# Altium schematic symbol library CornellBajaLibrary.SchLib: 122 symbols (part 1 of 2)
Pins are listed as number, name and electrical type; pins without a type are passive.

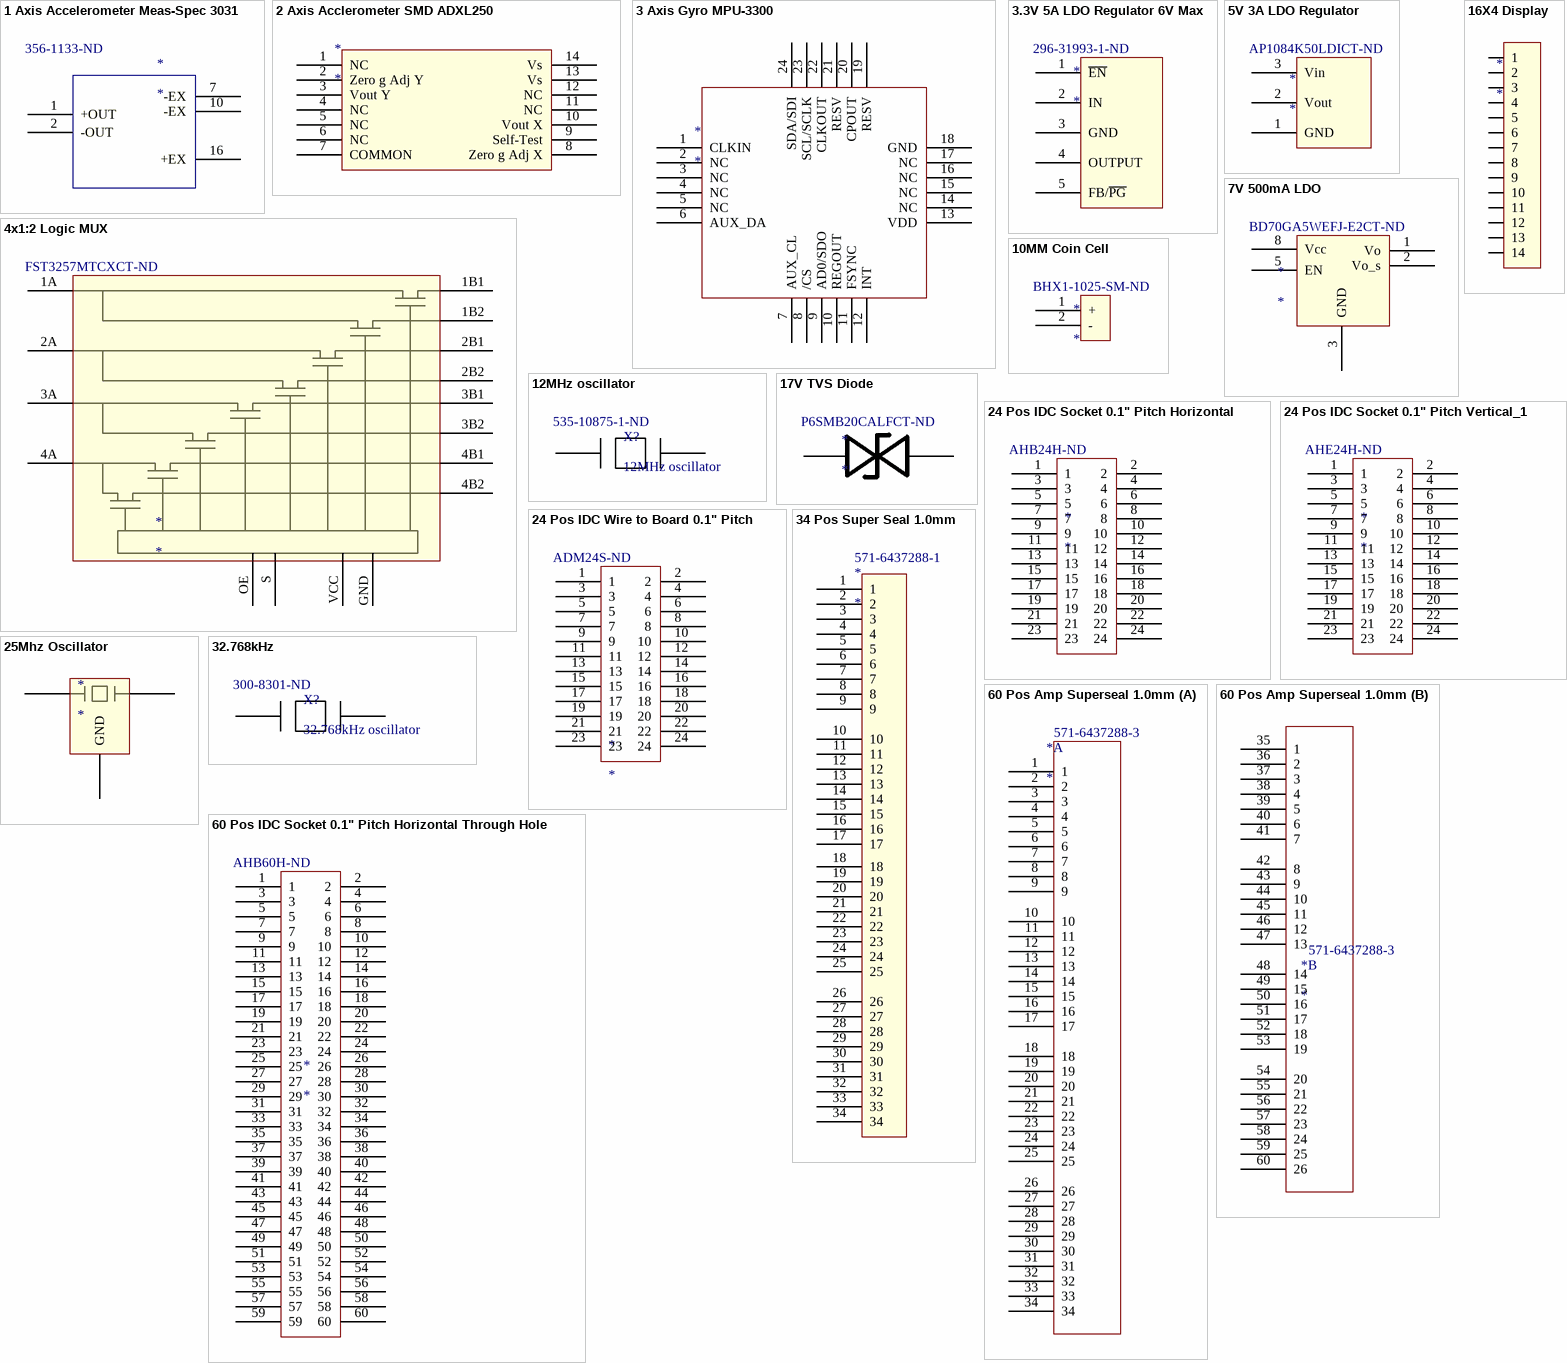
[diagram p0: symbols 1 Axis Accelerometer Meas-Spec 3031 to 60 Pos IDC Socket 0.1" Pitch Horizontal Through Hole]

## 1 Axis Accelerometer Meas-Spec 3031
designator *  Supplier Part Number 1: 356-1133-ND
Supplier 1: Digi-Key
footprint 1 Axis Accel 3031 (Meas-Spec 3031)
pins: 1 +OUT, 2 -OUT, 7 -EX, 10 -EX, 16 +EX

## 2 Axis Acclerometer SMD ADXL250
designator *
footprint ADXL250 (SOP, 14-Leads, Body 9.9x7.4mm (max), Pitch 1.27mm, IPC Medium Density)
pins: 1 NC, 2 Zero g Adj Y, 3 Vout Y, 4 NC, 5 NC, 6 NC, 7 COMMON, 8 Zero g Adj X, 9 Self-Test, 10 Vout X, 11 NC, 12 NC, 13 Vs, 14 Vs

## 3 Axis Gyro MPU-3300
designator *
footprint MPU-3300 (QFN, 24-Leads, Body 4.0x4.0mm (max), Pitch 0.50mm, IPC Medium Density)
pins: 1 CLKIN, 2 NC, 3 NC, 4 NC, 5 NC, 6 AUX_DA, 7 AUX_CL, 8 /CS, 9 AD0/SDO, 10 REGOUT, 11 FSYNC, 12 INT, 13 VDD, 14 NC, 15 NC, 16 NC, 17 NC, 18 GND, 19 RESV, 20 CPOUT, 21 RESV, 22 CLKOUT, 23 SCL/SCLK, 24 SDA/SDI

## 3.3V 5A LDO Regulator 6V Max
designator *  Supplier Part Number 1: 296-31993-1-ND
Supplier 1: Digi-Key; HelpURL: http://www.ti.com/lit/ds/symlink/tps75501.pdf
footprint 3.3V 5A LDO Reg 6V Max (TPS75533KTTT)
pins: 1 ~{EN}, 2 IN, 3 GND, 4 OUTPUT, 5 FB/~{PG}

## 4x1:2 Logic MUX
designator *  Supplier Part Number 1: FST3257MTCXCT-ND
Supplier 1: Digi-Key
footprint 4X 1:2 MUX (FST3257  QSOP); pin to pad 1A>4 1B1>2 1B2>3 2A>7 2B1>5 2B2>6 3A>9 3B1>11 3B2>10 4A>12 4B1>14 4B2>13 GND>8 OE>15 S>1 VCC>16
pins: 1A, 1B1, 1B2, 2A, 2B1, 2B2, 3A, 3B1, 3B2, 4A, 4B1, 4B2, GND, OE, S, VCC

## 5V 3A LDO Regulator
designator *  Supplier Part Number 1: AP1084K50LDICT-ND
Supplier 1: Digi-Key
footprint 5V 5A LDO Reg 12V Max (AP1084K50L-U)
pins: 1 GND, 2 Vout, 3 Vin

## 7V 500mA LDO
designator *  Supplier Part Number 1: BD70GA5WEFJ-E2CT-ND
Supplier 1: Digi-Key
footprint TSOP127P600X100_HS-8N (TSOP, 8-Leads, Body 5.2x4.0mm (max), Pitch 1.27mm, IPC Medium Density)
pins: 1 Vo, 2 Vo_s, 3 GND, 5 EN, 8 Vcc, 9 FIN

## 10MM Coin Cell
designator *  Supplier Part Number 1: BHX1-1025-SM-ND
Supplier 1: Digi-Key
footprint 10MM Coin Cell (BHX1-1025-SM)
pins: 1 +, 2 -

## 12MHz oscillator
designator X?  Supplier Part Number 1: 535-10875-1-ND
12MHz surface mount oscillator; Supplier 1: Digi-Key
footprint 12MHZ Oscillator (ABM2-12.000MHZ-D4Y-T)
pins: 1, 2

## 16X4 Display
designator *
pins: 1, 2, 3, 4, 5, 6, 7, 8, 9, 10, 11, 12, 13, 14

## 17V TVS Diode
designator *  Supplier Part Number 1: P6SMB20CALFCT-ND
Supplier 1: Digi-Key
footprint LittelFuse 17V TVS Diode (DO-214AA)
pins: 1 Anode, 2 Cathode

## 24 Pos IDC Socket 0.1" Pitch Horizontal
designator *  Supplier Part Number 1: AHB24H-ND
Supplier 1: Digi-Key
footprint 24 Pos IDC Horizontal 0.1" Pitch Socket
pins: 1, 2, 3, 4, 5, 6, 7, 8, 9, 10, 11, 12, 13, 14, 15, 16, 17, 18, 19, 20, 21, 22, 23, 24

## 24 Pos IDC Socket 0.1" Pitch Vertical_1
designator *  Supplier Part Number 1: AHE24H-ND
Supplier 1: Digi-Key
footprint 24 Pos IDC Vertical 0.1" Pitch Socket
pins: 1, 2, 3, 4, 5, 6, 7, 8, 9, 10, 11, 12, 13, 14, 15, 16, 17, 18, 19, 20, 21, 22, 23, 24

## 24 Pos IDC Wire to Board 0.1" Pitch
designator *  Supplier Part Number 1: ADM24S-ND
Supplier 1: Digi-Key
footprint 24 Pos IDC Vertical 0.1" Pitch Wire to Board
pins: 1, 2, 3, 4, 5, 6, 7, 8, 9, 10, 11, 12, 13, 14, 15, 16, 17, 18, 19, 20, 21, 22, 23, 24

## 25Mhz Oscillator
designator *
footprint 25Mhz Oscillator
pins: 1, 2 GND, 3 2, 4 GND

## 32.768kHz
designator X?, comment 32.768kHz oscillator  Supplier Part Number 1: 300-8301-ND
32.768kHz surface mount oscillator; Supplier 1: Digi-Key
footprint 32.768kHz Oscillator (CFS-206)
pins: 1, 2

## 34 Pos Super Seal 1.0mm
designator *  Supplier Part Number 1: 571-6437288-1
Supplier 1: Mouser
footprint 34 Pos Amp Superseal 1.0mm (6437288-1)
pins: 1, 2, 3, 4, 5, 6, 7, 8, 9, 10, 11, 12, 13, 14, 15, 16, 17, 18, 19, 20, 21, 22, 23, 24, 25, 26, 27, 28, 29, 30, 31, 32, 33, 34

## 60 Pos Amp Superseal 1.0mm
designator *  Supplier Part Number 1: 571-6437288-3
Supplier 1: Mouser
footprint 60 Pos Amp Superseal 1.mm (6437288-3)
part A pins: 1, 2, 3, 4, 5, 6, 7, 8, 9, 10, 11, 12, 13, 14, 15, 16, 17, 18, 19, 20, 21, 22, 23, 24, 25, 26, 27, 28, 29, 30, 31, 32, 33, 34
part B pins: 35 1, 36 2, 37 3, 38 4, 39 5, 40 6, 41 7, 42 8, 43 9, 44 10, 45 11, 46 12, 47 13, 48 14, 49 15, 50 16, 51 17, 52 18, 53 19, 54 20, 55 21, 56 22, 57 23, 58 24, 59 25, 60 26

## 60 Pos IDC Socket 0.1" Pitch Horizontal Through Hole
designator *  Supplier Part Number 1: AHB60H-ND
Supplier 1: Digi-Key
footprint 60 Pos IDC Horizontal 0.1" Pitch Socket Through Hole
pins: 1, 2, 3, 4, 5, 6, 7, 8, 9, 10, 11, 12, 13, 14, 15, 16, 17, 18, 19, 20, 21, 22, 23, 24, 25, 26, 27, 28, 29, 30, 31, 32, 33, 34, 35, 36, 37, 38, 39, 40, 41, 42, 43, 44, 45, 46, 47, 48, 49, 50, 51, 52, 53, 54, 55, 56, 57, 58, 59, 60

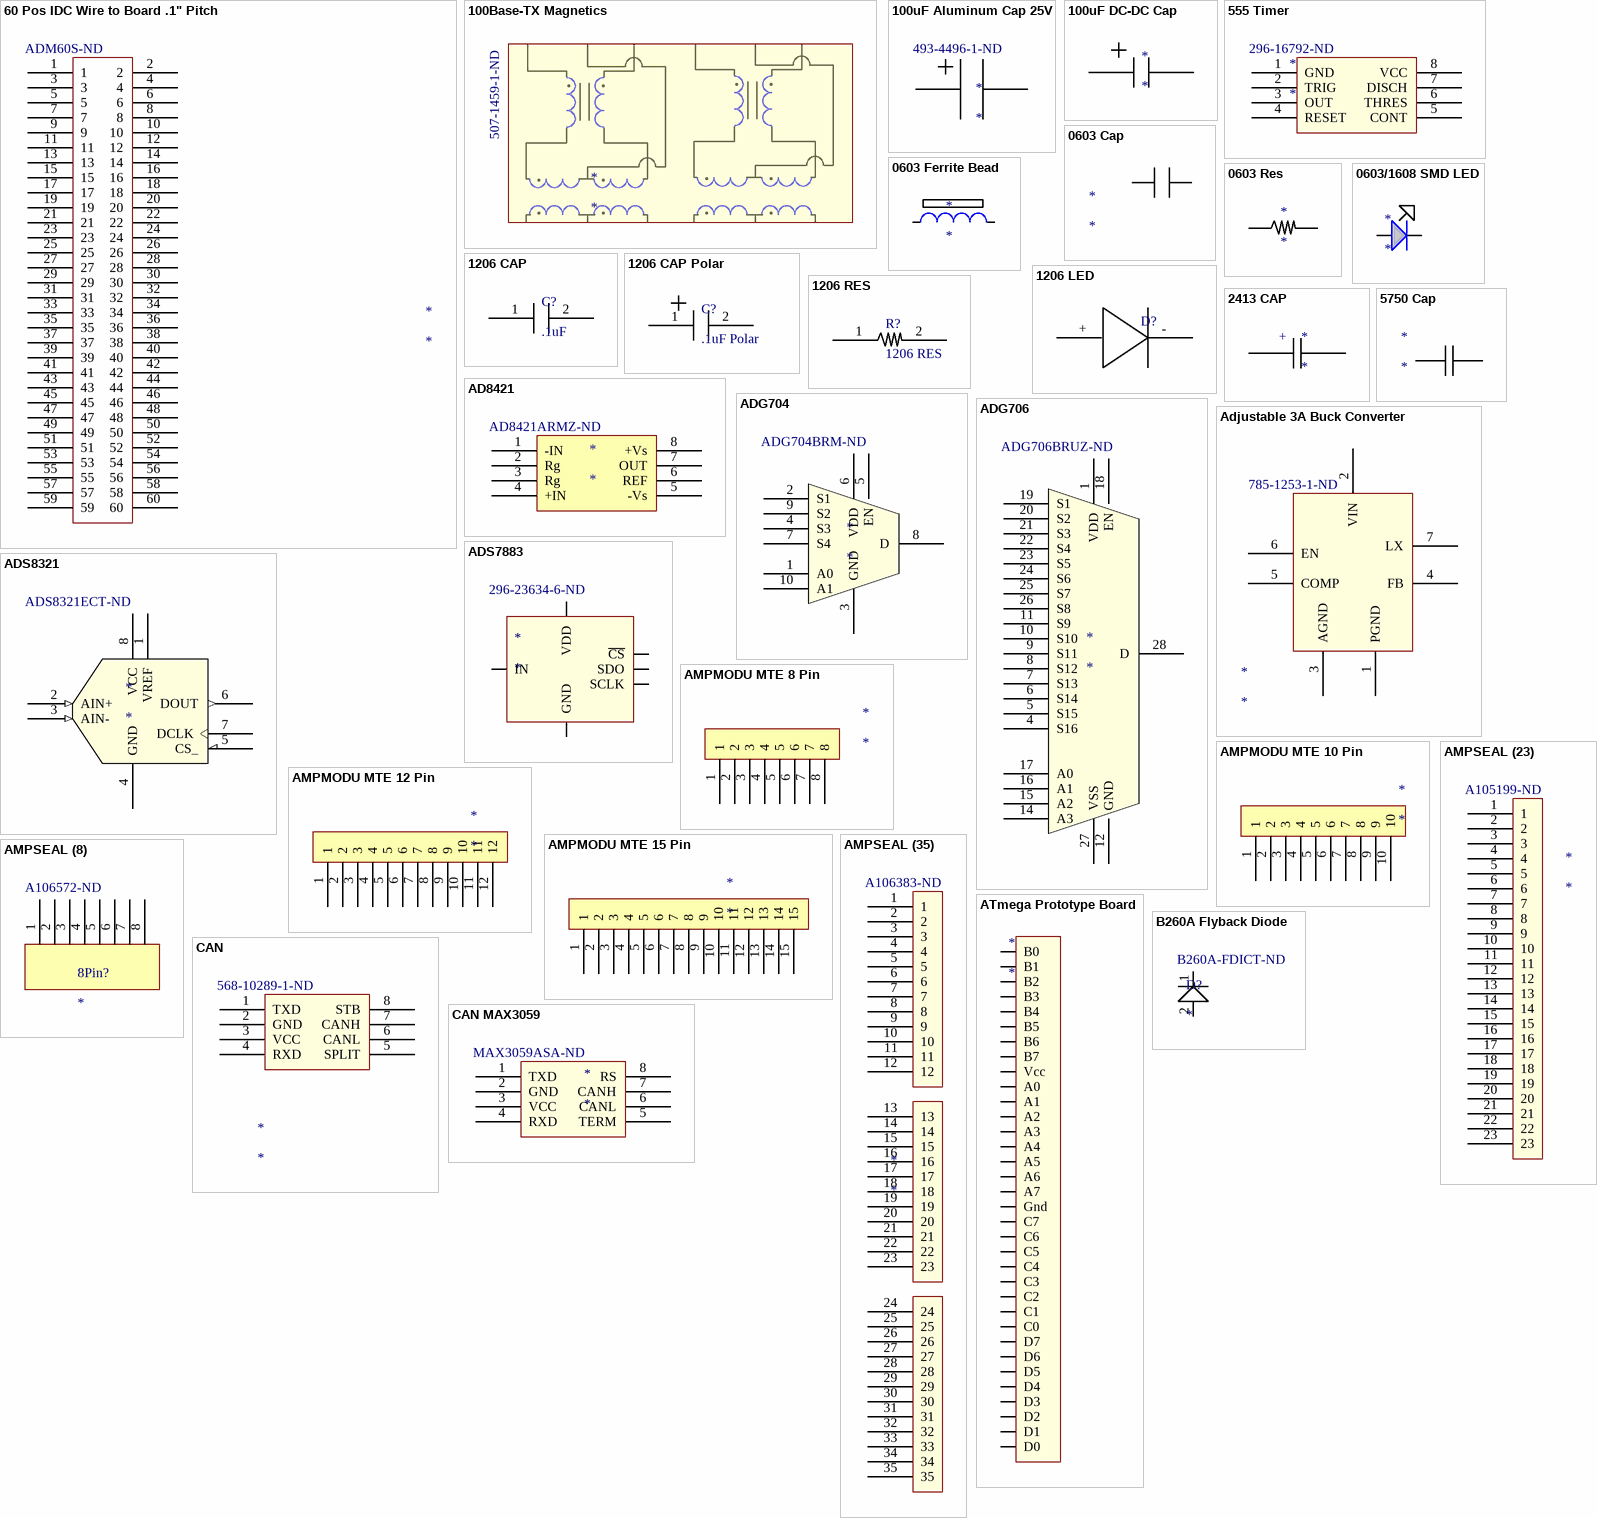
[diagram p1: symbols 60 Pos IDC Wire to Board .1" Pitch to CAN MAX3059]

## 60 Pos IDC Wire to Board .1" Pitch
designator *  Supplier Part Number 1: ADM60S-ND
Supplier 1: Digi-Key
footprint 60 Pos IDC Vertical 0.1" Pitch Wire to Board
pins: 1, 2, 3, 4, 5, 6, 7, 8, 9, 10, 11, 12, 13, 14, 15, 16, 17, 18, 19, 20, 21, 22, 23, 24, 25, 26, 27, 28, 29, 30, 31, 32, 33, 34, 35, 36, 37, 38, 39, 40, 41, 42, 43, 44, 45, 46, 47, 48, 49, 50, 51, 52, 53, 54, 55, 56, 57, 58, 59, 60

## 100Base-TX Magnetics
designator *  Supplier Part Number 1: 507-1459-1-ND
Supplier 1: Digi-Key
footprint SOP127P920X571-16N (SOP, 16-Leads, Body 12.32x7.24mm, Pitch 1.27mm, IPC Medium Density)
pins: 1, 2, 3, 6, 7, 8, 9, 10, 11, 14, 15, 16

## 100uF Aluminum Cap 25V
designator *  Supplier Part Number 1: 493-4496-1-ND
Supplier 1: Digi-Key
footprint 100uF 25V Electrolytic Cap (UBT1E101MPD1TD)
pins: 1 +, 2 -

## 100uF DC-DC Cap
designator *
Supplier 1: Digi-Key; ComponentLink1URL: http://www.nichicon.co.jp/english/products/pdf/2013fpcap_catalog_r7.pdf; ComponentLink1Description: http://www.nichicon.co.jp/english/products/pdf/2013fpcap_catalog_r7.pdf; Supplier Part Number 1: 493-3716-ND
footprint 100uF DC-DC Cap
pins: 1 +, 2 -

## 555 Timer
designator *  Supplier Part Number 1: 296-16792-ND
NE555; Supplier 1: Digi-Key
footprint 555 Timer (NE555)
pins: 1 GND, 2 TRIG, 3 OUT, 4 RESET, 5 CONT, 6 THRES, 7 DISCH, 8 VCC

## 0603 Cap
designator *
footprint 0603/1608 SMD Resistor
pins: 1, 2

## 0603 Ferrite Bead
designator *
footprint 0603/1608 SMD Resistor
pins: 1, 2

## 0603 Res
designator *
footprint 0603/1608 SMD Resistor
pins: 1, 2

## 0603/1608 SMD LED
designator *
footprint 0603/1608 SMD LED
pins: 1, 2

## 1206 CAP
designator C?, comment .1uF
.1 uF decoupling caps.  you probably want this for your project; ComponentLink1Description: Datasheet for .1 uF Capacitor; ComponentLink1URL: http://www.kemet.com/kemet/web/homepage/kechome.nsf/vapubfiles/F3102_X7R.pdf/$file/F3102_X7R.pdf; Supplier 1: Digi-Key; Supplier Part Number 1: 311-1161-1-ND
footprint 1206
pins: 1, 2

## 1206 CAP Polar
designator C?, comment .1uF Polar
.1 uF decoupling caps.  you probably want this for your project; ComponentLink1Description: Datasheet for .1 uF Capacitor; ComponentLink1URL: http://www.kemet.com/kemet/web/homepage/kechome.nsf/vapubfiles/F3102_X7R.pdf/$file/F3102_X7R.pdf
footprint 1206 (POLAR)
pins: 1, 2

## 1206 LED
designator D?
Green surface mount LED
footprint Cathode Mark 1206 led footprint (OSRAM semiconductor)
pins: +, -

## 1206 RES
designator R?
0 ohm surface mount resistor.; ComponentLink1URL: http://industrial.panasonic.com/www-cgi/jvcr13pz.cgi?E+PZ+3+AOA0001+ERJ8GEYJ103V+7+WW; ComponentLink1Description: Datasheet for 10k Resistor
footprint 1206
pins: 1, 2

## 2413 CAP
designator *
footprint 2512 CAP
pins: + 1, - 2

## 5750 Cap
designator *
Supplier 1: Digi-Key; Supplier Part Number 1: 445-1655-1-ND
footprint 5750 SMD Cap
pins: 1, 2

## AD8421
designator *  Supplier Part Number 1: AD8421ARMZ-ND
Inamp with 10000 gain; ComponentLink1URL: http://www.analog.com/static/imported-files/data_sheets/AD8223.pdf; ComponentLink1Description: http://www.analog.com/static/imported-files/data_sheets/AD8223.pdf; Supplier 1: Digi-Key; ComponentLink2URL: http://www.analog.com/static/imported-files/data_sheets/AD8421.pdf; ComponentLink2Description: http://www.analog.com/static/imported-files/data_sheets/AD8421.pdf
footprint SOIC127P600X175-8N (SOIC, 8-Leads, Body 5.0x4.0mm (max), Pitch 1.27mm, IPC Medium Density)
pins: 1 -IN, 2 Rg, 3 Rg, 4 +IN, 5 -Vs, 6 REF, 7 OUT, 8 +Vs

## ADG704
designator *  Supplier Part Number 1: ADG704BRM-ND
Analog 1:4 MUX; Supplier 1: Digi-Key; ComponentLink1URL: http://www.analog.com/static/imported-files/data_sheets/ADG704.pdf; ComponentLink1Description: http://www.analog.com/static/imported-files/data_sheets/ADG704.pdf
footprint TSSOP50P490X110-10N (TSSOP, 10-Leads, Body 3.0x3.0mm (max), Pitch 0.50mm, IPC Medium Density)
pins: 1 A0, 2 S1, 3 GND, 4 S3, 5 EN, 6 VDD, 7 S4, 8 D, 9 S2, 10 A1

## ADG706
designator *  Supplier Part Number 1: ADG706BRUZ-ND
Analog 1:16 MUX; Supplier 1: Digi-Key; ComponentLink1URL: http://www.analog.com/static/imported-files/data_sheets/AD8223.pdf; ComponentLink1Description: http://www.analog.com/static/imported-files/data_sheets/AD8223.pdf
footprint TSOP65P640X110-28N (TSOP, 28-Leads, Body 9.8x4.5mm (max), Pitch 0.65mm, IPC Medium Density)
pins: 1 VDD, 4 S16, 5 S15, 6 S14, 7 S13, 8 S12, 9 S11, 10 S10, 11 S9, 12 GND, 14 A3, 15 A2, 16 A1, 17 A0, 18 EN, 19 S1, 20 S2, 21 S3, 22 S4, 23 S5, 24 S6, 25 S7, 26 S8, 27 VSS, 28 D

## Adjustable 3A Buck Converter
designator *  Supplier Part Number 1: 785-1253-1-ND
Supplier 1: Digi-Key
footprint 3A Buck Converter (SOIC, 8-Leads, Body 5.0x4.0mm (max), Pitch 1.27mm, IPC Medium Density AOZ1031AI)
pins: 1 PGND, 2 VIN, 3 AGND, 4 FB, 5 COMP, 6 EN, 7 LX, 8 LX

## ADS7883
designator *  Supplier Part Number 1: 296-23634-6-ND
Supplier 1: Digi-Key
footprint TSOP95P280X145-6N (TSOP, 6-Leads, Body 2.90x1.60mm, Pitch 0.95mm, IPC Medium Density)
pins: 1 VDD, 2 GND, 3 IN, 4 SCLK, 5 SDO, 6 ~{CS}

## ADS8321
designator *  Supplier Part Number 1: ADS8321ECT-ND
100ksps 16-bit Differential ADC; Supplier 1: Digi-Key; ComponentLink1URL: http://www.ti.com/lit/ds/symlink/ads8321.pdf; ComponentLink1Description: http://www.ti.com/lit/ds/symlink/ads8321.pdf
footprint TSOP65P490X110-8N (TSOP, 8-Leads, Body 3.1x3.1mm (max), Pitch 0.65mm, IPC Medium Density)
pins: 1 VREF (power), 2 AIN+ (in), 3 AIN- (in), 4 GND, 5 CS_, 6 DOUT (out), 7 DCLK, 8 VCC (power)

## AMPMODU MTE 8 Pin
designator *
footprint AMPMODU 8 Pin
pins: 1, 2, 3, 4, 5, 6, 7, 8

## AMPMODU MTE 10 Pin
designator *
footprint AMPMODU 10 Pin
pins: 1, 2, 3, 4, 5, 6, 7, 8, 9, 10

## AMPMODU MTE 12 Pin
designator *
footprint AMPMODU 12 Pin
pins: 1, 2, 3, 4, 5, 6, 7, 8, 9, 10, 11, 12

## AMPMODU MTE 15 Pin
designator *
footprint AMPMODU 15 Pin
pins: 1, 2, 3, 4, 5, 6, 7, 8, 9, 10, 11, 12, 13, 14, 15

## AMPSEAL (8)
designator 8Pin?  Supplier Part Number 1: A106572-ND
AMPSEAL 8 Position Vertical; Product Number: 1-776276-1; Supplier 1: Digi-Key
footprint AMPSEAL (8)
pins: 1, 2, 3, 4, 5, 6, 7, 8

## AMPSEAL (23)
designator *  Supplier Part Number 1: A105199-ND
Supplier 1: Digi-Key
footprint AMPSEAL (23)
pins: 1, 2, 3, 4, 5, 6, 7, 8, 9, 10, 11, 12, 13, 14, 15, 16, 17, 18, 19, 20, 21, 22, 23

## AMPSEAL (35)
designator *  Supplier Part Number 1: A106383-ND
Supplier 1: Digi-Key
footprint Ampseal (35)
pins: 1, 2, 3, 4, 5, 6, 7, 8, 9, 10, 11, 12, 13, 14, 15, 16, 17, 18, 19, 20, 21, 22, 23, 24, 25, 26, 27, 28, 29, 30, 31, 32, 33, 34, 35

## ATmega Prototype Board
designator *
pins: 1 B0, 2 B1, 3 B2, 4 B3, 5 B4, 6 B5, 7 B6, 8 B7, 9 Vcc, 10 A0, 11 A1, 12 A2, 13 A3, 14 A4, 15 A5, 16 A6, 17 A7, 18 Gnd, 19 C7, 21 C0, 22 C1, 23 C2, 24 C3, 25 C4, 26 C5, 27 C6, 28 D0, 29 D1, 30 D2, 31 D3, 32 D4, 33 D5, 34 D6, 35 D7

## B260A Flyback Diode
designator D?  Supplier Part Number 1: B260A-FDICT-ND
Supplier 1: Digi-Key
footprint DO-214AC
pins: 1, 2

## CAN
designator *  Supplier Part Number 1: 568-10289-1-ND
Supplier 1: Digi-Key
footprint TJA1040 (SOIC, 8-Leads, Body 5.0x4.0mm (max), Pitch 1.27mm, IPC Medium Density)
pins: 1 TXD, 2 GND, 3 VCC, 4 RXD, 5 SPLIT, 6 CANL, 7 CANH, 8 STB

## CAN MAX3059
designator *  Supplier Part Number 1: MAX3059ASA-ND
Supplier 1: Digi-Key
footprint TJA1040 (SOIC, 8-Leads, Body 5.0x4.0mm (max), Pitch 1.27mm, IPC Medium Density)
pins: 1 TXD, 2 GND, 3 VCC, 4 RXD, 5 TERM, 6 CANL, 7 CANH, 8 RS

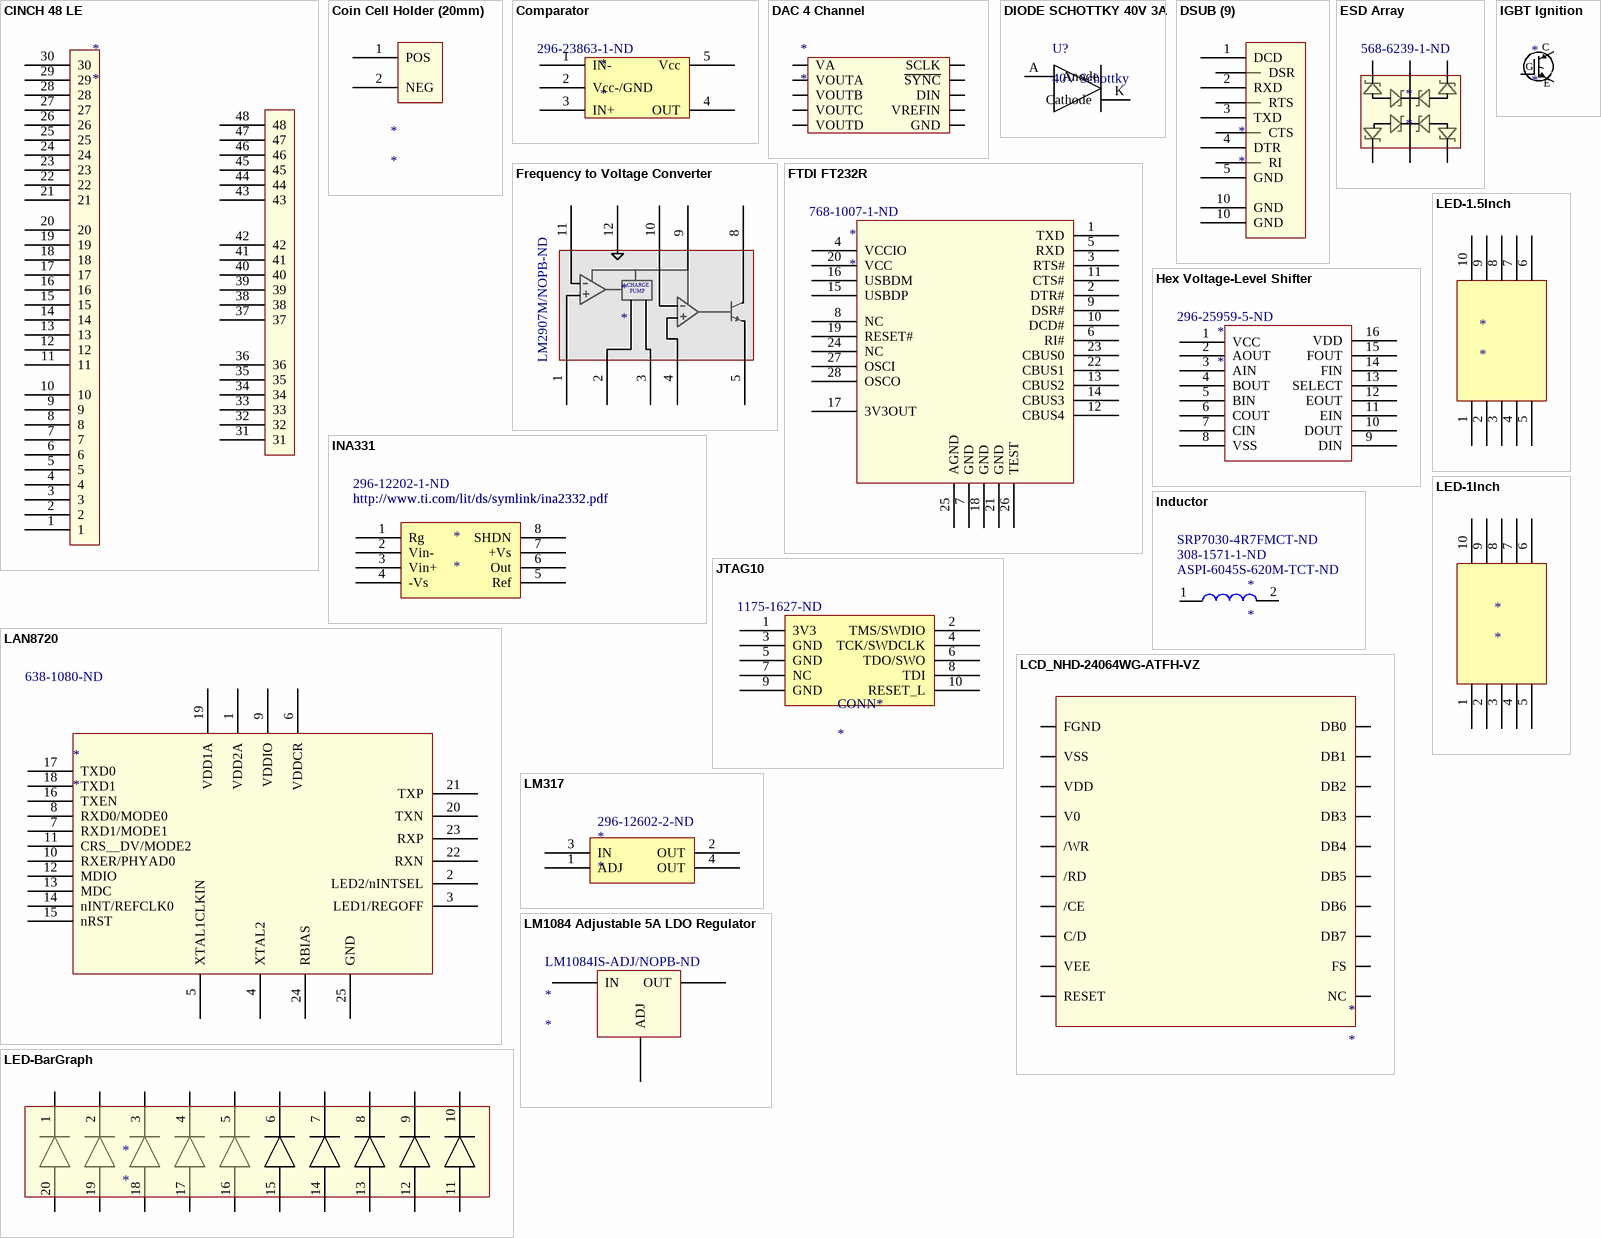
[diagram p2: symbols CINCH 48 LE to LM1084 Adjustable 5A LDO Regulator]

## CINCH 48 LE
designator *
footprint Cinch (48) LE
pins: 1, 2, 3, 4, 5, 6, 7, 8, 9, 10, 11, 12, 13, 14, 15, 16, 17, 18, 19, 20, 21, 22, 23, 24, 25, 26, 27, 28, 29, 30, 31, 32, 33, 34, 35, 36, 37, 38, 39, 40, 41, 42, 43, 44, 45, 46, 47, 48

## Coin Cell Holder (20mm)
designator *
footprint Coin Cell Holder 2032
pins: 1 POS, 2 NEG

## Comparator
designator *  Supplier Part Number 1: 296-23863-1-ND
Supplier 1: Digi-Key
footprint Comparator (TL331KDBVR)
pins: 1 IN-, 2 Vcc-/GND, 3 IN+, 4 OUT, 5 Vcc

## DAC 4 Channel
designator *
footprint TSSOP50P490X110-10N (TSSOP, 10-Leads, Body 3.0x3.0mm (max), Pitch 0.50mm, IPC Medium Density)
pins: 1 VA, 2 VOUTA, 3 VOUTB, 4 VOUTC, 5 VOUTD, 6 GND, 7 VREFIN, 8 DIN, 9 ~{SYNC}, 10 SCLK

## DIODE SCHOTTKY 40V 3A
designator U?, comment 40V Schottky
DIODE SCHOTTKY 40V 3A SMA; ComponentLink1Description: Diode Datasheet; ComponentLink1URL: http://www.diodes.com/datasheets/ds30240.pdf
footprint DIODE SCHOTTKY 40V 3A SMA
pins: A Anode, K Cathode

## DSUB (9)
designator *
footprint 9 Pin D Sub
pins: 1 DCD, 2 RXD, 3 TXD, 4 DTR, 5 GND, 6 DSR, 7 RTS, 8 CTS, 9 RI, 10 GND, 10 GND

## ESD Array
designator *  Supplier Part Number 1: 568-6239-1-ND
BZA408B,115; Supplier 1: Digi-Key
footprint ESD_Array_BZA408B (SOT23, 6-Leads, Body 3.1x3.0mm (max), Pitch 0.95mm, IPC Medium Density)
pins: 1, 2, 3, 4, 5, 6

## Frequency to Voltage Converter
designator *  Supplier Part Number 1: LM2907M/NOPB-ND
Supplier 1: Digi-Key
footprint SOP127P600X175-14N (SOP, 14-Leads, Body 8.8x4.0mm (max), Pitch 1.27mm, IPC Medium Density)
pins: 1 fin, 2 fin, 3 fin, 4 fin, 5 fin, 8 fin, 9 fin, 10 fin, 11 fin, 12 fin
text: CHARGE; PUMP

## FTDI FT232R
designator *  Supplier Part Number 1: 768-1007-1-ND
Supplier 1: Digi-Key
footprint FTDI FT232R (SOP, 28-Leads, Body 10.5x5.6mm (max), Pitch 0.65mm, IPC Medium Density)
pins: 1 TXD, 2 DTR#, 3 RTS#, 4 VCCIO, 5 RXD, 6 RI#, 7 GND, 8 NC, 9 DSR#, 10 DCD#, 11 CTS#, 12 CBUS4, 13 CBUS2, 14 CBUS3, 15 USBDP, 16 USBDM, 17 3V3OUT, 18 GND, 19 RESET#, 20 VCC, 21 GND, 22 CBUS1, 23 CBUS0, 24 NC, 25 AGND, 26 TEST, 27 OSCI, 28 OSCO

## Hex Voltage-Level Shifter
designator *  Supplier Part Number 1: 296-25959-5-ND
Supplier 1: Digi-Key
footprint Hex Voltage-Level Shifter (CD4504B)
pins: 1 VCC, 2 AOUT, 3 AIN, 4 BOUT, 5 BIN, 6 COUT, 7 CIN, 8 VSS, 9 DIN, 10 DOUT, 11 EIN, 12 EOUT, 13 SELECT, 14 FIN, 15 FOUT, 16 VDD

## IGBT Ignition
designator *
Supplier 1: Mouser; Supplier Part Number 1: 512-ISL9V5036P3-F085
footprint TO-220AB
pins: 1 G, 2 G, 3 G
text: C; E

## INA331
designator *  Supplier Part Number 1: 296-12202-1-ND
Inamp Rail Output 2MHz; Supplier 1: Digi-Key; ComponentLink1URL: http://www.ti.com/lit/ds/symlink/ina2332.pdf; ComponentLink1Description: http://www.ti.com/lit/ds/symlink/ina2332.pdf
footprint TSOP65P490X110-8N (TSOP, 8-Leads, Body 3.1x3.1mm (max), Pitch 0.65mm, IPC Medium Density)
pins: 1 Rg, 2 Vin-, 3 Vin+, 4 -Vs, 5 Ref, 6 Out, 7 +Vs, 8 SHDN

## Inductor
designator *  Supplier Part Number 1: ASPI-6045S-620M-TCT-ND  Supplier Part Number 2: 308-1571-1-ND  Supplier Part Number 3: SRP7030-4R7FMCT-ND
Inductor; Supplier 1: Digi-Key; Supplier 2: Digi-Key; Supplier 3: Digi-Key
footprint ASPI-6045
footprint 4.7uH Inductor Wirewound 5A (SRP7030-4R7FM)
footprint 4.7uH 1MHz Inductor (CDMC6D28NP-4R7MC)
pins: 1, 2

## JTAG10
designator CONN*  Supplier Part Number 1: 1175-1627-ND
3220-10-0100-00; Supplier 1: Digi-Key
footprint JTAG10 Polarity (3220-10-0100-00)
pins: 1 3V3, 2 TMS/SWDIO, 3 GND, 4 TCK/SWDCLK, 5 GND, 6 TDO/SWO, 7 NC, 8 TDI, 9 GND, 10 RESET_L

## LAN8720
designator *  Supplier Part Number 1: 638-1080-ND
Supplier 1: Digi-Key
footprint QFN50P400X400X100_HS-25N (QFN, 24-Leads, Body 4.00x4.00mm, Pitch 0.50mm, Thermal Pad 2.50x2.50mm, IPC Medium Density)
pins: 1 VDD2A, 2 LED2/nINTSEL, 3 LED1/REGOFF, 4 XTAL2, 5 XTAL1CLKIN, 6 VDDCR, 7 RXD1/MODE1, 8 RXD0/MODE0, 9 VDDIO, 10 RXER/PHYAD0, 11 CRS__DV/MODE2, 12 MDIO, 13 MDC, 14 nINT/REFCLK0, 15 nRST, 16 TXEN, 17 TXD0, 18 TXD1, 19 VDD1A, 20 TXN, 21 TXP, 22 RXN, 23 RXP, 24 RBIAS, 25 GND

## LCD_NHD-24064WG-ATFH-VZ
designator *
pins: 1 FGND, 2 VSS, 3 VDD, 4 V0, 5 /WR, 6 /RD, 7 /CE, 8 C/D, 9 VEE, 10 RESET, 11 DB1, 11 DB0, 12 DB3, 12 DB2, 13 DB4, 14 DB5, 15 DB6, 16 DB7, 19 FS, 20 NC

## LED-1.5Inch
designator *
footprint LED 1.5 Inch 7 Segment
pins: 1, 2, 3, 4, 5, 6, 7, 8, 9, 10

## LED-1Inch
designator *
footprint LED 1 Inch 7 Segment
pins: 1, 2, 3, 4, 5, 6, 7, 8, 9, 10

## LED-BarGraph
designator *
footprint LED Bargraph
pins: 1 Cathode, 2 Cathode, 3 Cathode, 4 Cathode, 5 Cathode, 6 Cathode, 7 Cathode, 8 Cathode, 9 Cathode, 10 Cathode, 11 Anode, 12 Anode, 13 Anode, 14 Anode, 15 Anode, 16 Anode, 17 Anode, 18 Anode, 19 Anode, 20 Anode

## LM317
designator *  Supplier Part Number 1: 296-12602-2-ND
40V Input Adjustable LDO; Supplier 1: Digi-Key; ComponentLink1URL: http://www.ti.com/lit/ds/symlink/lm317.pdf; ComponentLink1Description: http://www.ti.com/lit/ds/symlink/lm317.pdf
footprint SOT230P700X180-4N (SOT223, 4-Leads, Body 6.7x7.3mm (max), Pitch 2.30mm, IPC Medium Density)
pins: 1 ADJ, 2 OUT, 3 IN, 4 OUT

## LM1084 Adjustable 5A LDO Regulator
designator *  Supplier Part Number 1: LM1084IS-ADJ/NOPB-ND
Supplier 1: Digi-Key
footprint LM1084 5A (D2-PAK, 4-Pads, Body 8.6x10.3mm (max), IPC Medium Density)
pins: 1 ADJ, 2 OUT, 3 IN

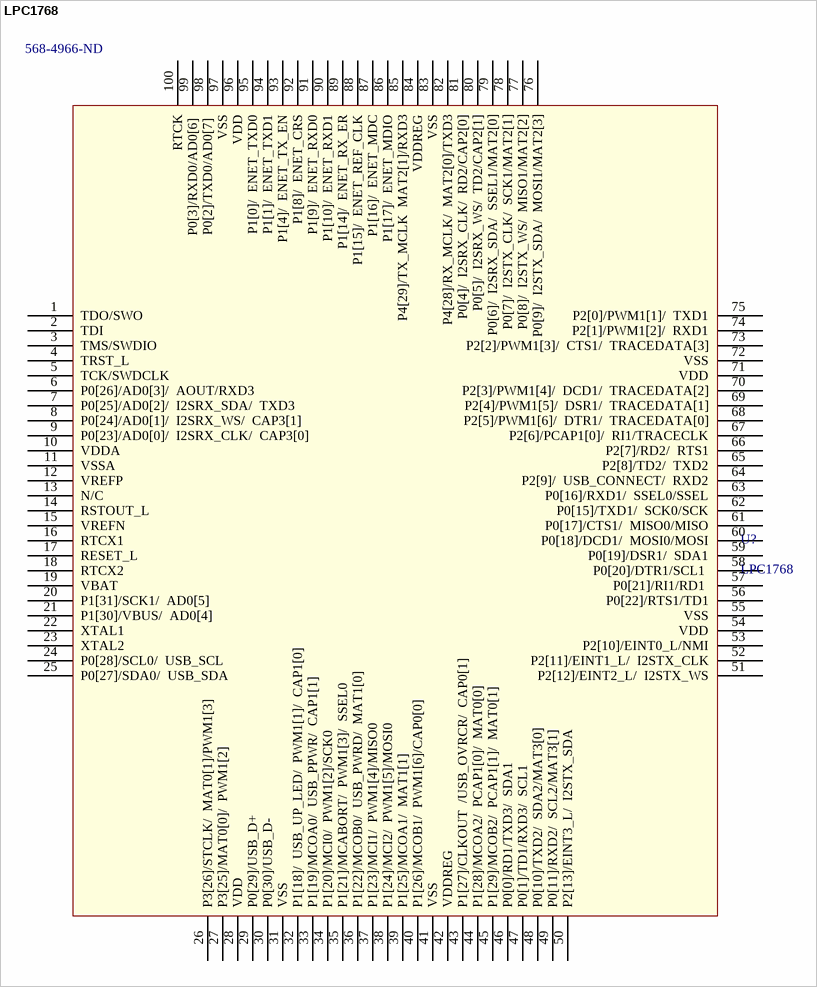
[diagram p3: symbol LPC1768]

## LPC1768
designator U?  Supplier Part Number 1: 568-4966-ND
100 pin ARM microcontroller; Supplier 1: Digi-Key
footprint LPC1768 (TSQFP, 100-Leads, Body 16.3x16.3mm (max), Pitch 0.50mm, IPC Medium Density)
pins: 1 TDO/SWO , 2 TDI, 3 TMS/SWDIO, 4 TRST_L, 5 TCK/SWDCLK, 6 P0[26]/AD0[3]/  AOUT/RXD3, 7 P0[25]/AD0[2]/  I2SRX_SDA/  TXD3, 8 P0[24]/AD0[1]/  I2SRX_WS/  CAP3[1], 9 P0[23]/AD0[0]/  I2SRX_CLK/  CAP3[0], 10 VDDA, 11 VSSA, 12 VREFP, 13 N/C, 14 RSTOUT_L, 15 VREFN, 16 RTCX1, 17 RESET_L, 18 RTCX2, 19 VBAT, 20 P1[31]/SCK1/  AD0[5], 21 P1[30]/VBUS/  AD0[4], 22 XTAL1, 23 XTAL2, 24 P0[28]/SCL0/  USB_SCL, 25 P0[27]/SDA0/  USB_SDA, 26 P3[26]/STCLK/  MAT0[1]/PWM1[3], 27 P3[25]/MAT0[0]/  PWM1[2], 28 VDD, 29 P0[29]/USB_D+ , 30 P0[30]/USB_D-, 31 VSS, 32 P1[18]/  USB_UP_LED/  PWM1[1]/  CAP1[0], 33 P1[19]/MCOA0/  USB_PPWR/  CAP1[1], 34 P1[20]/MCI0/  PWM1[2]/SCK0, 35 P1[21]/MCABORT/  PWM1[3]/  SSEL0, 36 P1[22]/MCOB0/  USB_PWRD/  MAT1[0], 37 P1[23]/MCI1/  PWM1[4]/MISO0, 38 P1[24]/MCI2/  PWM1[5]/MOSI0, 39 P1[25]/MCOA1/  MAT1[1], 40 P1[26]/MCOB1/  PWM1[6]/CAP0[0], 41 VSS, 42 VDDREG, 43 P1[27]/CLKOUT  /USB_OVRCR/  CAP0[1], 44 P1[28]/MCOA2/  PCAP1[0]/  MAT0[0], 45 P1[29]/MCOB2/  PCAP1[1]/  MAT0[1], 46 P0[0]/RD1/TXD3/  SDA1, 47 P0[1]/TD1/RXD3/  SCL1, 48 P0[10]/TXD2/  SDA2/MAT3[0], 49 P0[11]/RXD2/  SCL2/MAT3[1], 50 P2[13]/EINT3_L/  I2STX_SDA, 51 P2[12]/EINT2_L/  I2STX_WS, 52 P2[11]/EINT1_L/  I2STX_CLK, 53 P2[10]/EINT0_L/NMI, 54 VDD, 55 VSS, 56 P0[22]/RTS1/TD1, 57 P0[21]/RI1/RD1 , 58 P0[20]/DTR1/SCL1 , 59 P0[19]/DSR1/  SDA1, 60 P0[18]/DCD1/  MOSI0/MOSI, 61 P0[17]/CTS1/  MISO0/MISO, 62 P0[15]/TXD1/  SCK0/SCK, 63 P0[16]/RXD1/  SSEL0/SSEL, 64 P2[9]/  USB_CONNECT/  RXD2, 65 P2[8]/TD2/  TXD2, 66 P2[7]/RD2/  RTS1, 67 P2[6]/PCAP1[0]/  RI1/TRACECLK, 68 P2[5]/PWM1[6]/  DTR1/  TRACEDATA[0], 69 P2[4]/PWM1[5]/  DSR1/  TRACEDATA[1], 70 P2[3]/PWM1[4]/  DCD1/  TRACEDATA[2], 71 VDD, 72 VSS, 73 P2[2]/PWM1[3]/  CTS1/  TRACEDATA[3], 74 P2[1]/PWM1[2]/  RXD1, 75 P2[0]/PWM1[1]/  TXD1, 76 P0[9]/  I2STX_SDA/  MOSI1/MAT2[3], 77 P0[8]/  I2STX_WS/  MISO1/MAT2[2], 78 P0[7]/  I2STX_CLK/  SCK1/MAT2[1], 79 P0[6]/  I2SRX_SDA/  SSEL1/MAT2[0], 80 P0[5]/  I2SRX_WS/  TD2/CAP2[1], 81 P0[4]/  I2SRX_CLK/  RD2/CAP2[0], 82 P4[28]/RX_MCLK/  MAT2[0]/TXD3, 83 VSS, 84 VDDREG, 85 P4[29]/TX_MCLK  MAT2[1]/RXD3, 86 P1[17]/  ENET_MDIO, 87 P1[16]/  ENET_MDC, 88 P1[15]/  ENET_REF_CLK, 89 P1[14]/  ENET_RX_ER, 90 P1[10]/  ENET_RXD1, 91 P1[9]/  ENET_RXD0, 92 P1[8]/  ENET_CRS, 93 P1[4]/  ENET_TX_EN, 94 P1[1]/  ENET_TXD1, 95 P1[0]/  ENET_TXD0, 96 VDD, 97 VSS, 98 P0[2]/TXD0/AD0[7] , 99 P0[3]/RXD0/AD0[6] , 100 RTCK

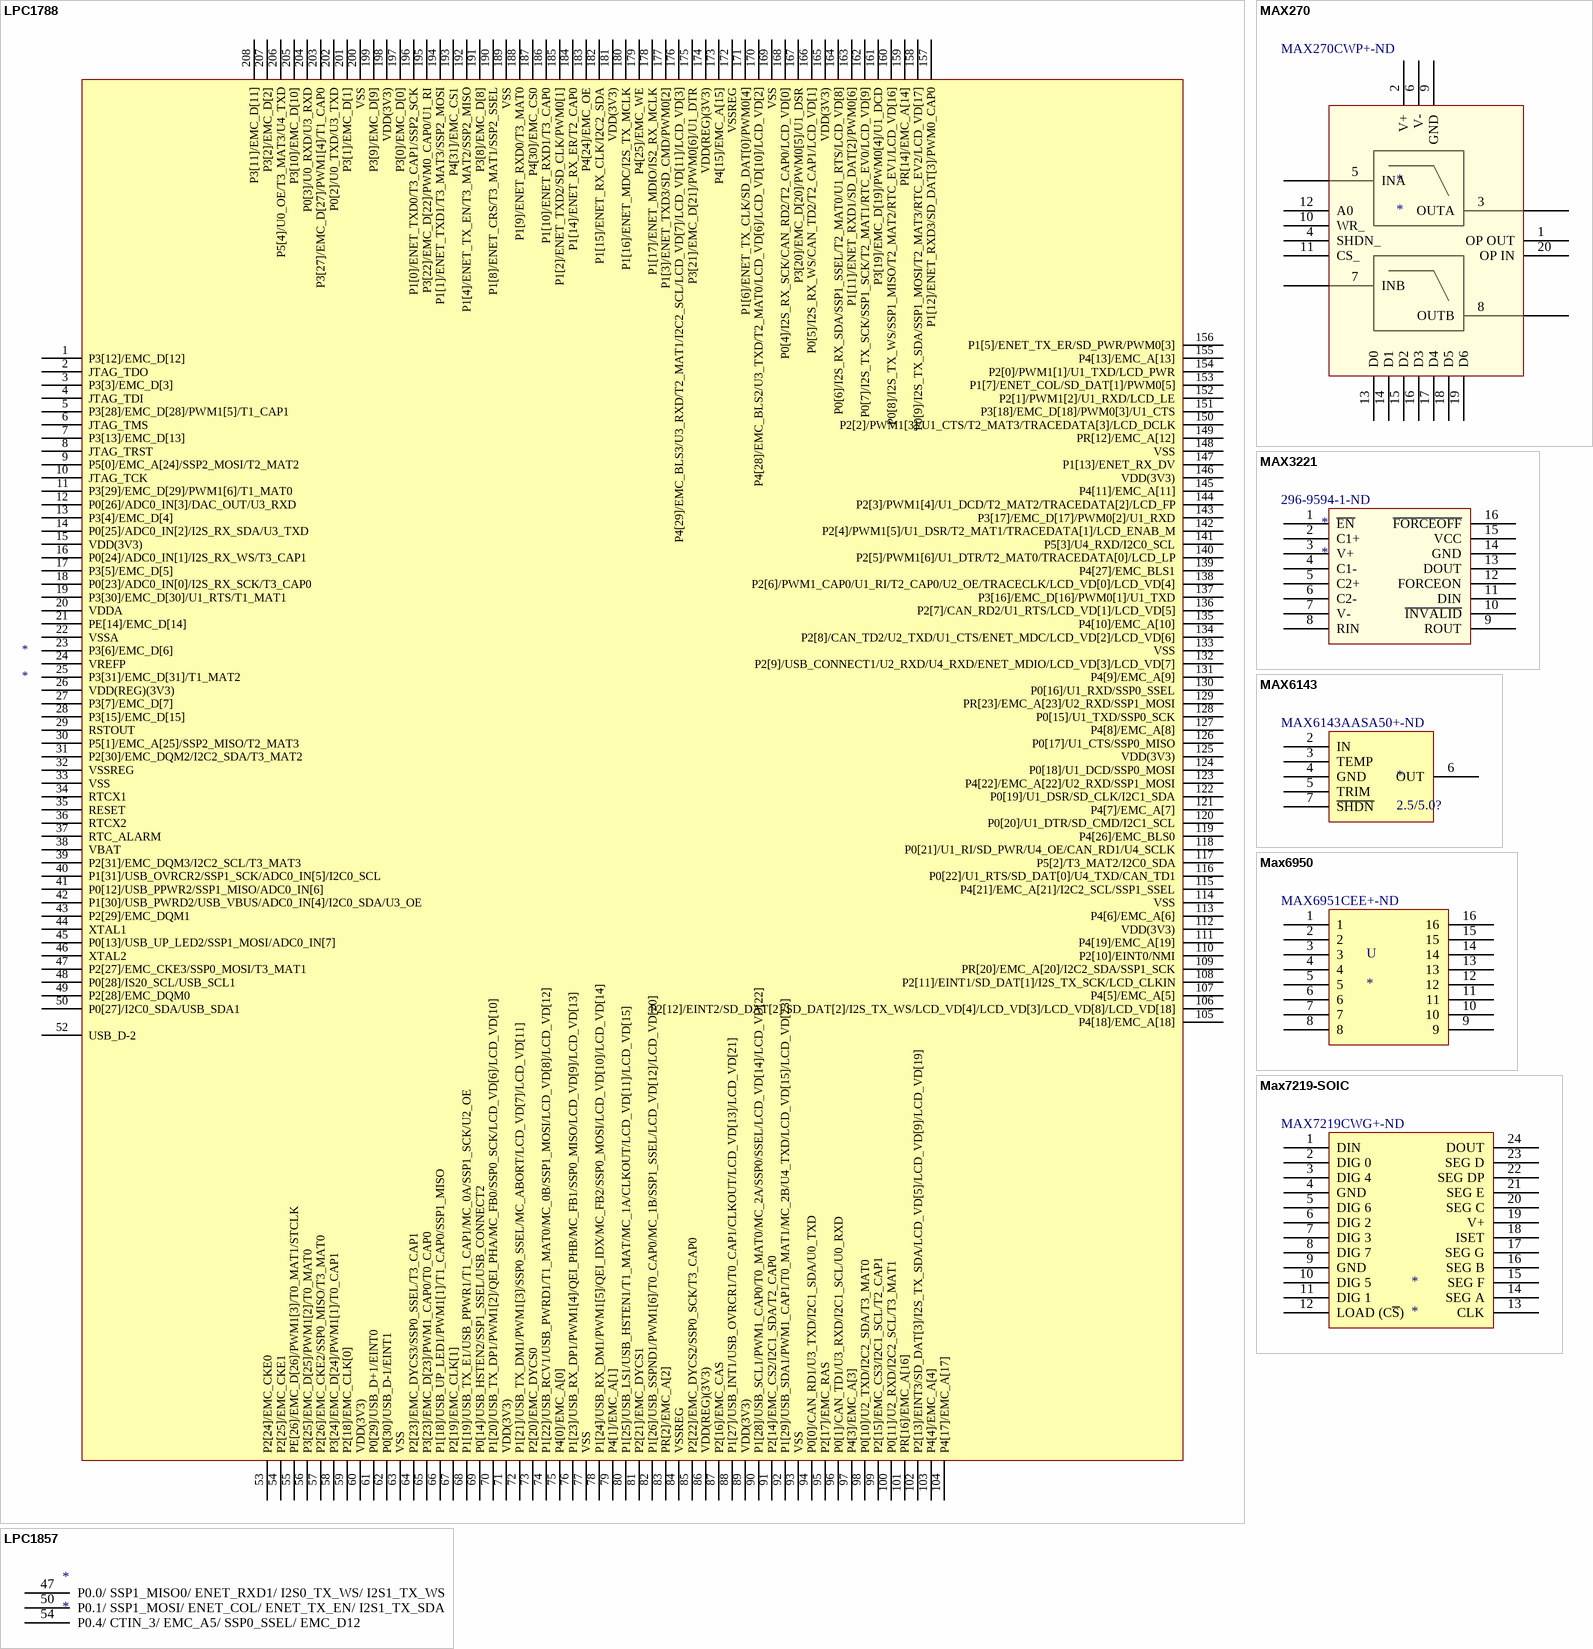
[diagram p4: symbols LPC1788 to Max7219-SOIC]

## LPC1788
designator *
footprint LPC1788 (TSQFP, 208-Leads, Body 30.1x30.1mm (max), Pitch 0.50mm, IPC Medium Density)
pins: 1 P3[12]/EMC_D[12], 2 JTAG_TDO, 3 P3[3]/EMC_D[3], 4 JTAG_TDI, 5 P3[28]/EMC_D[28]/PWM1[5]/T1_CAP1, 6 JTAG_TMS, 7 P3[13]/EMC_D[13], 8 JTAG_TRST, 9 P5[0]/EMC_A[24]/SSP2_MOSI/T2_MAT2, 10 JTAG_TCK, 11 P3[29]/EMC_D[29]/PWM1[6]/T1_MAT0, 12 P0[26]/ADC0_IN[3]/DAC_OUT/U3_RXD, 13 P3[4]/EMC_D[4], 14 P0[25]/ADC0_IN[2]/I2S_RX_SDA/U3_TXD, 15 VDD(3V3), 16 P0[24]/ADC0_IN[1]/I2S_RX_WS/T3_CAP1, 17 P3[5]/EMC_D[5], 18 P0[23]/ADC0_IN[0]/I2S_RX_SCK/T3_CAP0, 19 P3[30]/EMC_D[30]/U1_RTS/T1_MAT1, 20 VDDA, 21 PE[14]/EMC_D[14], 22 VSSA, 23 P3[6]/EMC_D[6], 24 VREFP, 25 P3[31]/EMC_D[31]/T1_MAT2, 26 VDD(REG)(3V3), 27 P3[7]/EMC_D[7], 28 P3[15]/EMC_D[15], 29 RSTOUT, 30 P5[1]/EMC_A[25]/SSP2_MISO/T2_MAT3, 31 P2[30]/EMC_DQM2/I2C2_SDA/T3_MAT2, 32 VSSREG, 33 VSS, 34 RTCX1, 35 RESET, 36 RTCX2, 37 RTC_ALARM, 38 VBAT, 39 P2[31]/EMC_DQM3/I2C2_SCL/T3_MAT3, 40 P1[31]/USB_OVRCR2/SSP1_SCK/ADC0_IN[5]/I2C0_SCL, 41 P0[12]/USB_PPWR2/SSP1_MISO/ADC0_IN[6], 42 P1[30]/USB_PWRD2/USB_VBUS/ADC0_IN[4]/I2C0_SDA/U3_OE, 43 P2[29]/EMC_DQM1, 44 XTAL1, 45 P0[13]/USB_UP_LED2/SSP1_MOSI/ADC0_IN[7], 46 XTAL2, 47 P2[27]/EMC_CKE3/SSP0_MOSI/T3_MAT1, 48 P0[28]/IS20_SCL/USB_SCL1, 49 P2[28]/EMC_DQM0, 50 P0[27]/I2C0_SDA/USB_SDA1, 51 P0[31]/USB_D+2 hidden, 52 USB_D-2, 53 P2[24]/EMC_CKE0, 54 P2[25]/EMC_CKE1, 55 PE[26]/EMC_D[26]/PWM1[3]/T0_MAT1/STCLK, 56 P3[25]/EMC_D[25]/PWM1[2]/T0_MAT0, 57 P2[26]/EMC_CKE2/SSP0_MISO/T3_MAT0, 58 P3[24]/EMC_D[24]/PWM1[1]/T0_CAP1, 59 P2[18]/EMC_CLK[0], 60 VDD(3V3), 61 P0[29]/USB_D+1/EINT0, 62 P0[30]/USB_D-1/EINT1, 63 VSS, 64 P2[23]/EMC_DYCS3/SSP0_SSEL/T3_CAP1, 65 P3[23]/EMC_D[23]/PWM1_CAP0/T0_CAP0, 66 P1[18]/USB_UP_LED1/PWM1[1]/T1_CAP0/SSP1_MISO, 67 P2[19]/EMC_CLK[1], 68 P1[19]/USB_TX_E1/USB_PPWR1/T1_CAP1/MC_0A/SSP1_SCK/U2_OE, 69 P0[14]/USB_HSTEN2/SSP1_SSEL/USB_CONNECT2, 70 P1[20]/USB_TX_DP1/PWM1[2]/QEI_PHA/MC_FB0/SSP0_SCK/LCD_VD[6]/LCD_VD[10], 71 VDD(3V3), 72 P1[21]/USB_TX_DM1/PWM1[3]/SSP0_SSEL/MC_ABORT/LCD_VD[7]/LCD_VD[11], 73 P2[20]/EMC_DYCS0, 74 P1[22]/USB_RCV1/USB_PWRD1/T1_MAT0/MC_0B/SSP1_MOSI/LCD_VD[8]/LCD_VD[12], 75 P4[0]/EMC_A[0], 76 P1[23]/USB_RX_DP1/PWM1[4]/QEI_PHB/MC_FB1/SSP0_MISO/LCD_VD[9]/LCD_VD[13], 77 VSS, 78 P1[24]/USB_RX_DM1/PWM1[5]/QEI_IDX/MC_FB2/SSP0_MOSI/LCD_VD[10]/LCD_VD[14], 79 P4[1]/EMC_A[1], 80 P1[25]/USB_LS1/USB_HSTEN1/T1_MAT/MC_1A/CLKOUT/LCD_VD[11]/LCD_VD[15], 81 P2[21]/EMC_DYCS1, 82 P1[26]/USB_SSPND1/PWM1[6]/T0_CAP0/MC_1B/SSP1_SSEL/LCD_VD[12]/LCD_VD[20], 83 PR[2]/EMC_A[2], 84 VSSREG, 85 P2[22]/EMC_DYCS2/SSP0_SCK/T3_CAP0, 86 VDD(REG)(3V3), 87 P2[16]/EMC_CAS, 88 P1[27]/USB_INT1/USB_OVRCR1/T0_CAP1/CLKOUT/LCD_VD[13]/LCD_VD[21], 89 VDD(3V3), 90 P1[28]/USB_SCL1/PWM1_CAP0/T0_MAT0/MC_2A/SSP0/SSEL/LCD_VD[14]/LCD_VD[22], 91 P2[14]/EMC_CS2/I2C1_SDA/T2_CAP0, 92 P1[29]/USB_SDA1/PWM1_CAP1/T0_MAT1/MC_2B/U4_TXD/LCD_VD[15]/LCD_VD[23], 93 VSS, 94 P0[0]/CAN_RD1/U3_TXD/I2C1_SDA/U0_TXD, 95 P2[17]/EMC_RAS, 96 P0[1]/CAN_TD1/U3_RXD/I2C1_SCL/U0_RXD, 97 P4[3]/EMC_A[3], 98 P0[10]/U2_TXD/I2C2_SDA/T3_MAT0, 99 P2[15]/EMC_CS3/I2C1_SCL/T2_CAP1, 100 P0[11]/U2_RXD/I2C2_SCL/T3_MAT1, 101 PR[16]/EMC_A[16], 102 P2[13]/EINT3/SD_DAT[3]/I2S_TX_SDA/LCD_VD[5]/LCD_VD[9]/LCD_VD[19], 103 P4[4]/EMC_A[4], 104 P4[17]/EMC_A[17], 105 P4[18]/EMC_A[18], 106 P2[12]/EINT2/SD_DAT[2]/SD_DAT[2]/I2S_TX_WS/LCD_VD[4]/LCD_VD[3]/LCD_VD[8]/LCD_VD[18], 107 P4[5]/EMC_A[5], 108 P2[11]/EINT1/SD_DAT[1]/I2S_TX_SCK/LCD_CLKIN, 109 PR[20]/EMC_A[20]/I2C2_SDA/SSP1_SCK, 110 P2[10]/EINT0/NMI, 111 P4[19]/EMC_A[19], 112 VDD(3V3), 113 P4[6]/EMC_A[6], 114 VSS, 115 P4[21]/EMC_A[21]/I2C2_SCL/SSP1_SSEL, 116 P0[22]/U1_RTS/SD_DAT[0]/U4_TXD/CAN_TD1, 117 P5[2]/T3_MAT2/I2C0_SDA, 118 P0[21]/U1_RI/SD_PWR/U4_OE/CAN_RD1/U4_SCLK, 119 P4[26]/EMC_BLS0, 120 P0[20]/U1_DTR/SD_CMD/I2C1_SCL, 121 P4[7]/EMC_A[7], 122 P0[19]/U1_DSR/SD_CLK/I2C1_SDA, 123 P4[22]/EMC_A[22]/U2_RXD/SSP1_MOSI, 124 P0[18]/U1_DCD/SSP0_MOSI, 125 VDD(3V3), 126 P0[17]/U1_CTS/SSP0_MISO, 127 P4[8]/EMC_A[8], 128 P0[15]/U1_TXD/SSP0_SCK, 129 PR[23]/EMC_A[23]/U2_RXD/SSP1_MOSI, 130 P0[16]/U1_RXD/SSP0_SSEL, 131 P4[9]/EMC_A[9], 132 P2[9]/USB_CONNECT1/U2_RXD/U4_RXD/ENET_MDIO/LCD_VD[3]/LCD_VD[7], 133 VSS, 134 P2[8]/CAN_TD2/U2_TXD/U1_CTS/ENET_MDC/LCD_VD[2]/LCD_VD[6], 135 P4[10]/EMC_A[10], 136 P2[7]/CAN_RD2/U1_RTS/LCD_VD[1]/LCD_VD[5], 137 P3[16]/EMC_D[16]/PWM0[1]/U1_TXD, 138 P2[6]/PWM1_CAP0/U1_RI/T2_CAP0/U2_OE/TRACECLK/LCD_VD[0]/LCD_VD[4], 139 P4[27]/EMC_BLS1, 140 P2[5]/PWM1[6]/U1_DTR/T2_MAT0/TRACEDATA[0]/LCD_LP, 141 P5[3]/U4_RXD/I2C0_SCL, 142 P2[4]/PWM1[5]/U1_DSR/T2_MAT1/TRACEDATA[1]/LCD_ENAB_M, 143 P3[17]/EMC_D[17]/PWM0[2]/U1_RXD, 144 P2[3]/PWM1[4]/U1_DCD/T2_MAT2/TRACEDATA[2]/LCD_FP, 145 P4[11]/EMC_A[11], 146 VDD(3V3), 147 P1[13]/ENET_RX_DV, 148 VSS, 149 PR[12]/EMC_A[12], 150 P2[2]/PWM1[3]/U1_CTS/T2_MAT3/TRACEDATA[3]/LCD_DCLK, 151 P3[18]/EMC_D[18]/PWM0[3]/U1_CTS, 152 P2[1]/PWM1[2]/U1_RXD/LCD_LE, 153 P1[7]/ENET_COL/SD_DAT[1]/PWM0[5], 154 P2[0]/PWM1[1]/U1_TXD/LCD_PWR, 155 P4[13]/EMC_A[13], 156 P1[5]/ENET_TX_ER/SD_PWR/PWM0[3], 157 P1[12]/ENET_RXD3/SD_DAT[3]/PWM0_CAP0, 158 P0[9]/I2S_TX_SDA/SSP1_MOSI/T2_MAT3/RTC_EV2/LCD_VD[17], 159 PR[14]/EMC_A[14], 160 P0[8]/I2S_TX_WS/SSP1_MISO/T2_MAT2/RTC_EV1/LCD_VD[16], 161 P3[19]/EMC_D[19]/PWM0[4]/U1_DCD, 162 P0[7]/I2S_TX_SCK/SSP1_SCK/T2_MAT1/RTC_EV0/LCD_VD[9], 163 P1[11]/ENET_RXD1/SD_DAT[2]/PWM0[6], 164 P0[6]/I2S_RX_SDA/SSP1_SSEL/T2_MAT0/U1_RTS/LCD_VD[8], 165 VDD(3V3), 166 P0[5]/I2S_RX_WS/CAN_TD2/T2_CAP1/LCD_VD[1], 167 P3[20]/EMC_D[20]/PWM0[5]/U1_DSR, 168 P0[4]/I2S_RX_SCK/CAN_RD2/T2_CAP0/LCD_VD[0], 169 VSS, 170 P4[28]/EMC_BLS2/U3_TXD/T2_MAT0/LCD_VD[6]/LCD_VD[10]/LCD_VD[2], 171 P1[6]/ENET_TX_CLK/SD_DAT[0]/PWM0[4], 172 VSSREG, 173 P4[15]/EMC_A[15], 174 VDD(REG)(3V3), 175 P3[21]/EMC_D[21]/PWM0[6]/U1_DTR, 176 P4[29]/EMC_BLS3/U3_RXD/T2_MAT1/I2C2_SCL/LCD_VD[7]/LCD_VD[11]/LCD_VD[3], 177 P1[3]/ENET_TXD3/SD_CMD/PWM0[2], 178 P1[17]/ENET_MDIO/IS2_RX_MCLK, 179 P4[25]/EMC_WE, 180 P1[16]/ENET_MDC/I2S_TX_MCLK, 181 VDD(3V3), 182 P1[15]/ENET_RX_CLK/I2C2_SDA, 183 P4[24]/EMC_OE, 184 P1[14]/ENET_RX_ER/T2_CAP0, 185 P1[2]/ENET_TXD2/SD_CLK/PWM0[1], 186 P1[10]/ENET_RXD1/T3_CAP0, 187 P4[30]/EMC_CS0, 188 P1[9]/ENET_RXD0/T3_MAT0, 189 VSS, 190 P1[8]/ENET_CRS/T3_MAT1/SSP2_SSEL, 191 P3[8]/EMC_D[8], 192 P1[4]/ENET_TX_EN/T3_MAT2/SSP2_MISO, 193 P4[31]/EMC_CS1, 194 P1[1]/ENET_TXD1/T3_MAT3/SSP2_MOSI, 195 P3[22]/EMC_D[22]/PWM0_CAP0/U1_RI, 196 P1[0]/ENET_TXD0/T3_CAP1/SSP2_SCK, 197 P3[0]/EMC_D[0], 198 VDD(3V3), 199 P3[9]/EMC_D[9], 200 VSS, 201 P3[1]/EMC_D[1], 202 P0[2]/U0_TXD/U3_TXD, 203 P3[27]/EMC_D[27]/PWM1[4]/T1_CAP0, 204 P0[3]/U0_RXD/U3_RXD, 205 P3[10]/EMC_D[10], 206 P5[4]/U0_OE/T3_MAT3/U4_TXD, 207 P3[2]/EMC_D[2], 208 P3[11]/EMC_D[11]

## LPC1857
designator *
pins: 47 P0.0/ SSP1_MISO0/ ENET_RXD1/ I2S0_TX_WS/ I2S1_TX_WS, 50 P0.1/ SSP1_MOSI/ ENET_COL/ ENET_TX_EN/ I2S1_TX_SDA, 54 P0.4/ CTIN_3/ EMC_A5/ SSP0_SSEL/ EMC_D12

## MAX270
designator *  Supplier Part Number 1: MAX270CWP+-ND
Dual 2nd Order Digitally Programmed Lowpass Filter; Supplier 1: Digi-Key; ComponentLink1URL: http://www.ti.com/lit/ds/symlink/ads8321.pdf; ComponentLink1Description: http://www.ti.com/lit/ds/symlink/ads8321.pdf
footprint SOIC127P1030X265-20N (SOIC, 20-Leads, Body 13.0x7.6mm (max), Pitch 1.27mm, IPC Medium Density)
pins: 1 OP OUT, 2 V+, 3 OUTA, 4 SHDN_, 5 INA, 6 V-, 7 INB, 8 OUTB, 9 GND, 10 WR_, 11 CS_, 12 A0, 13 D0, 14 D1, 15 D2, 16 D3, 17 D4, 18 D5, 19 D6, 20 OP IN

## MAX3221
designator *  Supplier Part Number 1: 296-9594-1-ND
Supplier 1: Digi-Key
footprint MAX3221
pins: 1 ~{EN}, 2 C1+, 3 V+, 4 C1-, 5 C2+, 6 C2-, 7 V-, 8 RIN, 9 ROUT, 10 ~{INVALID}, 11 DIN, 12 FORCEON, 13 DOUT, 14 GND, 15 VCC, 16 ~{FORCEOFF}

## MAX6143
designator *, comment 2.5/5.0?  Supplier Part Number 1: MAX6143AASA50+-ND
High precision reference; ComponentLink1URL: http://datasheets.maximintegrated.com/en/ds/MAX6143.pdf; ComponentLink1Description: http://datasheets.maximintegrated.com/en/ds/MAX6143.pdf; Supplier 1: Digi-Key
footprint SOIC127P600X175-8N (SOIC, 8-Leads, Body 5.0x4.0mm (max), Pitch 1.27mm, IPC Medium Density)
pins: 2 IN, 3 TEMP, 4 GND, 5 TRIM, 6 OUT, 7 ~{SHDN}

## Max6950
designator U  Supplier Part Number 1: MAX6951CEE+-ND
8 digit 3V LED driver; Supplier 1: Digi-Key
footprint MAX6950 (SOP, 16-Leads, Body 5.0x4.0mm (max), Pitch 0.63mm, IPC Medium Density)
pins: 1, 2, 3, 4, 5, 6, 7, 8, 9, 10, 11, 12, 13, 14, 15, 16

## Max7219-SOIC
designator *  Supplier Part Number 1: MAX7219CWG+-ND
Supplier 1: Digi-Key
footprint Max7219-SOIC (SOIC, 24-Leads, Body 15.6x7.6mm (max), Pitch 1.27mm, IPC Medium Density)
pins: 1 DIN, 2 DIG 0, 3 DIG 4, 4 GND, 5 DIG 6, 6 DIG 2, 7 DIG 3, 8 DIG 7, 9 GND, 10 DIG 5, 11 DIG 1, 12 LOAD (C~{S}), 13 CLK, 14 SEG A, 15 SEG F, 16 SEG B, 17 SEG G, 18 ISET, 19 V+, 20 SEG C, 21 SEG E, 22 SEG DP, 23 SEG D, 24 DOUT

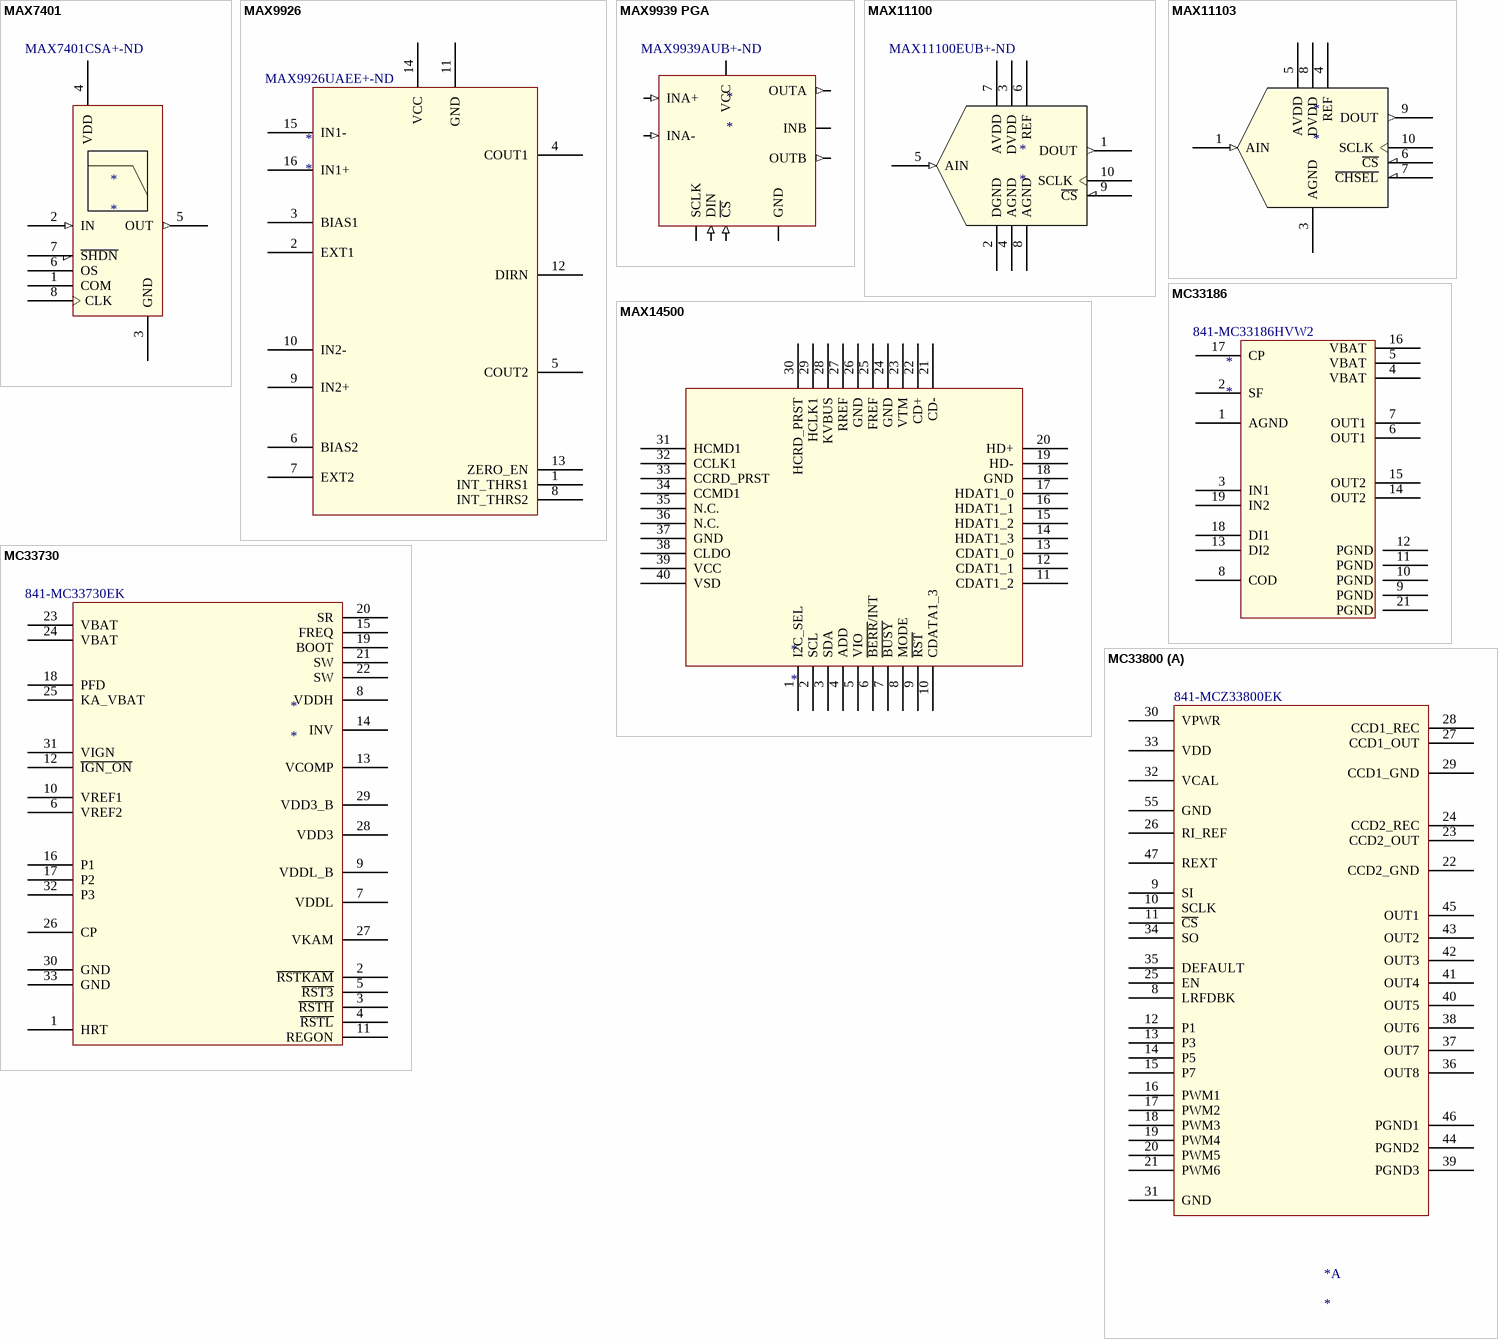
[diagram p5: symbols MAX7401 to MC33800]

## MAX7401
designator *  Supplier Part Number 1: MAX7401CSA+-ND
8th Order Lowpass 1-5kHz Filter; Supplier 1: Digi-Key; ComponentLink1URL: http://datasheets.maximintegrated.com/en/ds/MAX7401-MAX7405.pdf; ComponentLink1Description: http://datasheets.maximintegrated.com/en/ds/MAX7401-MAX7405.pdf
footprint SOIC127P600X175-8N (SOIC, 8-Leads, Body 5.0x4.0mm (max), Pitch 1.27mm, IPC Medium Density)
pins: 1 COM, 2 IN (in), 3 GND, 4 VDD, 5 OUT (out), 6 OS, 7 ~{SHDN}, 8 CLK

## MAX9926
designator *  Supplier Part Number 1: MAX9926UAEE+-ND
Supplier 1: Digi-Key
footprint MAX9926 (SOP, 16-Leads, Body 5.0x4.0mm (max), Pitch 0.63mm, IPC Medium Density)
pins: 1 INT_THRS1, 2 EXT1, 3 BIAS1, 4 COUT1, 5 COUT2, 6 BIAS2, 7 EXT2, 8 INT_THRS2, 9 IN2+, 10 IN2-, 11 GND, 12 DIRN, 13 ZERO_EN, 14 VCC, 15 IN1-, 16 IN1+

## MAX9939 PGA
designator *  Supplier Part Number 1: MAX9939AUB+-ND
Supplier 1: Digi-Key
footprint 10L uMax (TSSOP, 10-Leads, Body 2.95x2.95mm, Pitch 0.50mm, IPC Medium Density)
pins: 1 SCLK (io), 2 DIN (in), 3 GND, 4 INA- (in), 5 INA+ (in), 6 OUTB (out), 7 INB, 8 OUTA (out), 9 VCC, 10 ~{CS} (in)

## MAX11100
designator *  Supplier Part Number 1: MAX11100EUB+-ND
200ksps 16-bit Single ADC; ComponentLink1URL: http://datasheets.maximintegrated.com/en/ds/MAX11100.pdf; ComponentLink1Description: http://datasheets.maximintegrated.com/en/ds/MAX11100.pdf; Supplier 1: Digi-Key
footprint TSSOP50P490X110-10N (TSSOP, 10-Leads, Body 3.0x3.0mm (max), Pitch 0.50mm, IPC Medium Density)
pins: 1 DOUT (out), 2 DGND, 3 DVDD (power), 4 AGND, 5 AIN (in), 6 REF (power), 7 AVDD (power), 8 AGND, 9 ~{CS}, 10 SCLK

## MAX11103
designator *
footprint TSSOP50P490X110-10N (TSSOP, 10-Leads, Body 3.0x3.0mm (max), Pitch 0.50mm, IPC Medium Density)
pins: 1 AIN (in), 3 AGND, 4 REF (power), 5 AVDD (power), 6 ~{CS}, 7 ~{CHSEL}, 8 DVDD (power), 9 DOUT (out), 10 SCLK

## MAX14500
designator *
pins: 1 I2C_SEL, 2 SCL, 3 SDA, 4 ADD, 5 VIO, 6 ~{BERR}/INT, 7 ~{BUSY}, 8 MODE, 9 ~{RST}, 10 CDATA1_3, 11 CDAT1_2, 12 CDAT1_1, 13 CDAT1_0, 14 HDAT1_3, 15 HDAT1_2, 16 HDAT1_1, 17 HDAT1_0, 18 GND, 19 HD-, 20 HD+, 21 CD-, 22 CD+, 23 VTM, 24 GND, 25 FREF, 26 GND, 27 RREF, 28 KVBUS, 29 HCLK1, 30 HCRD_PRST, 31 HCMD1, 32 CCLK1, 33 CCRD_PRST, 34 CCMD1, 35 N.C., 36 N.C., 37 GND, 38 CLDO, 39 VCC, 40 VSD

## MC33186
designator *  Supplier Part Number 1: 841-MC33186HVW2
Supplier 1: Mouser
footprint MC33186 (SOP, 20-Leads, Body 16.0x11.1mm (max), Pitch 1.27mm, IPC Medium Density)
pins: 1 AGND, 2 SF, 3 IN1, 4 VBAT, 5 VBAT, 6 OUT1, 7 OUT1, 8 COD, 9 PGND, 10 PGND, 11 PGND, 12 PGND, 13 DI2, 14 OUT2, 15 OUT2, 16 VBAT, 17 CP, 18 DI1, 19 IN2, 21 PGND

## MC33730
designator *  Supplier Part Number 1: 841-MC33730EK
Supplier 1: Mouser
footprint MC33730 (SOP, 32-Leads, Body 11.1x7.6mm (max), Pitch 0.65mm, IPC Medium Density)
pins: 1 HRT, 2 ~{RSTKAM}, 3 ~{RSTH}, 4 ~{RSTL}, 5 ~{RST3}, 6 VREF2, 7 VDDL, 8 VDDH, 9 VDDL_B, 10 VREF1, 11 REGON, 12 ~{IGN_ON}, 13 VCOMP, 14 INV, 15 FREQ, 16 P1, 17 P2, 18 PFD, 19 BOOT, 20 SR, 21 SW, 22 SW, 23 VBAT, 24 VBAT, 25 KA_VBAT, 26 CP, 27 VKAM, 28 VDD3, 29 VDD3_B, 30 GND, 31 VIGN, 32 P3, 33 GND

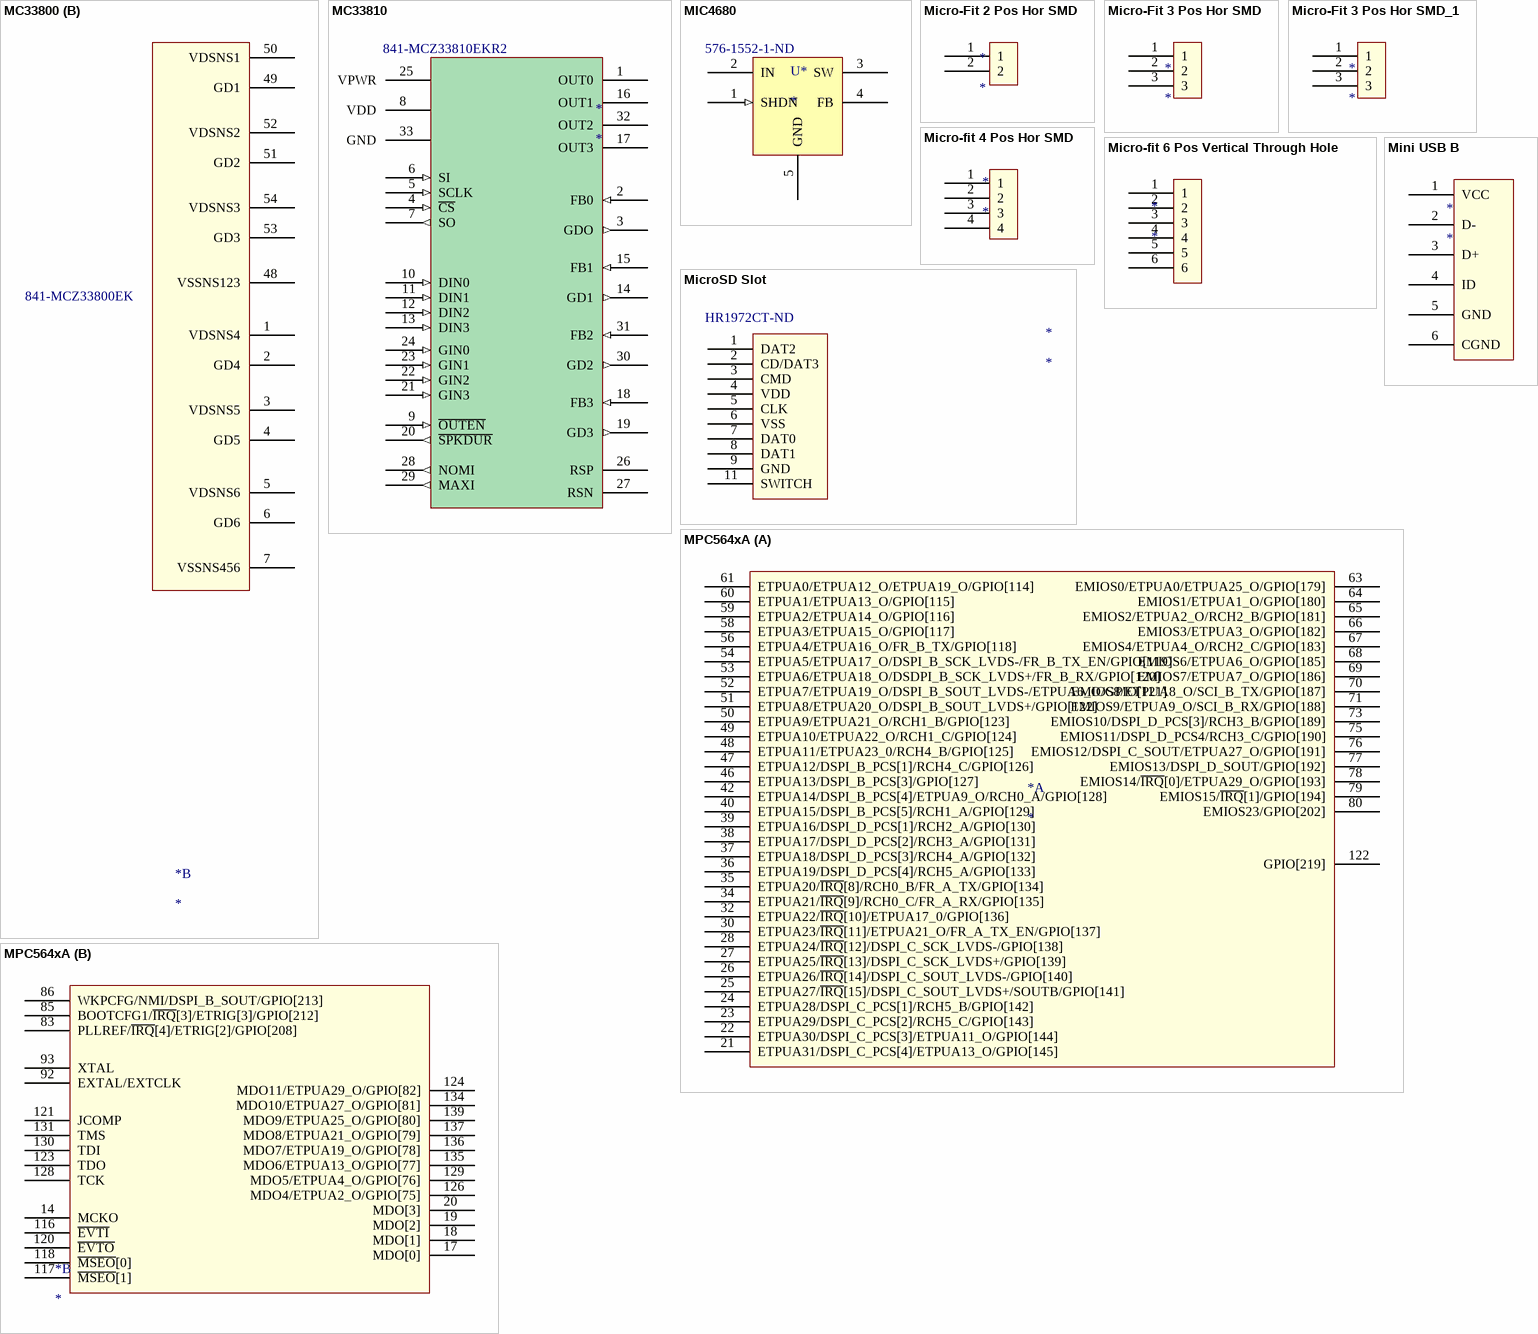
[diagram p6: symbols MC33800 to MPC564xA]

## MC33800
designator *  Supplier Part Number 1: 841-MCZ33800EK
Supplier 1: Mouser
footprint MC33800 (SOP, 54-Leads, Body 18.0x7.6mm (max), Pitch 0.65mm, IPC Medium Density)
part A pins: 8 LRFDBK, 9 SI, 10 SCLK, 11 ~{CS}, 12 P1, 13 P3, 14 P5, 15 P7, 16 PWM1, 17 PWM2, 18 PWM3, 19 PWM4, 20 PWM5, 21 PWM6, 22 CCD2_GND, 23 CCD2_OUT, 24 CCD2_REC, 25 EN, 26 RI_REF, 27 CCD1_OUT, 28 CCD1_REC, 29 CCD1_GND, 30 VPWR, 31 GND, 32 VCAL, 33 VDD, 34 SO, 35 DEFAULT, 36 OUT8, 37 OUT7, 38 OUT6, 39 PGND3, 40 OUT5, 41 OUT4, 42 OUT3, 43 OUT2, 44 PGND2, 45 OUT1, 46 PGND1, 47 REXT, 55 GND
part B pins: 1 VDSNS4, 2 GD4, 3 VDSNS5, 4 GD5, 5 VDSNS6, 6 GD6, 7 VSSNS456, 48 VSSNS123, 49 GD1, 50 VDSNS1, 51 GD2, 52 VDSNS2, 53 GD3, 54 VDSNS3

## MC33810
designator *  Supplier Part Number 1: 841-MCZ33810EKR2
Supplier 1: Mouser
footprint MC33810 (SOP, 32-Leads, Body 11.1x7.6mm (max), Pitch 0.65mm, IPC Medium Density)
pins: 1 OUT0 (oc), 2 FB0 (in), 3 GDO (out), 4 ~{CS} (in), 5 SCLK (in), 6 SI (in), 7 SO (out), 8 VDD (power), 9 ~{OUTEN} (in), 10 DIN0 (in), 11 DIN1 (in), 12 DIN2 (in), 13 DIN3 (in), 14 GD1 (out), 15 FB1 (in), 16 OUT1, 17 OUT3, 18 FB3 (in), 19 GD3 (out), 20 ~{SPKDUR} (out), 21 GIN3 (in), 22 GIN2 (in), 23 GIN1 (in), 24 GIN0 (in), 25 VPWR (power), 26 RSP, 27 RSN, 28 NOMI (out), 29 MAXI (out), 30 GD2 (out), 31 FB2 (in), 32 OUT2, 33 GND

## MIC4680
designator U*  Supplier Part Number 1: 576-1552-1-ND
3.3V Fixed Switching Regulator 1A; Supplier 1: Digi-Key
footprint TJA1040 (SOIC, 8-Leads, Body 5.0x4.0mm (max), Pitch 1.27mm, IPC Medium Density)
pins: 1 SHDN (in), 2 IN, 3 SW, 4 FB, 5 GND, 6, 7, 8

## Micro-Fit 2 Pos Hor SMD
designator *
footprint Micro-fit 2 Pos Hor SMD - duplicate
pins: 1, 2

## Micro-Fit 3 Pos Hor SMD
designator *
footprint Micro-fit 3 Pos Hor SMD - duplicate1
pins: 1, 2, 3

## Micro-Fit 3 Pos Hor SMD_1
designator *
footprint Micro-fit 3 Pos Hor SMD - duplicate1
pins: 1, 2, 3

## Micro-fit 4 Pos Hor SMD
designator *
footprint Micro-fit 4 Pos Hor SMD
pins: 1, 2, 3, 4

## Micro-fit 6 Pos Vertical Through Hole
designator *
footprint Microfit 6 Pos Vertical Through Hole
pins: 1, 2, 3, 4, 5, 6

## MicroSD Slot
designator *  Supplier Part Number 1: HR1972CT-ND
Supplier 1: Digi-Key
footprint MicroSD Slot (DM3CS-SF)
pins: 1 DAT2, 2 CD/DAT3, 3 CMD, 4 VDD, 5 CLK, 6 VSS, 7 DAT0, 8 DAT1, 9 GND, 11 SWITCH

## Mini USB B
designator *
footprint Mini USB B
pins: 1 VCC, 2 D-, 3 D+, 4 ID, 5 GND, 6 CGND

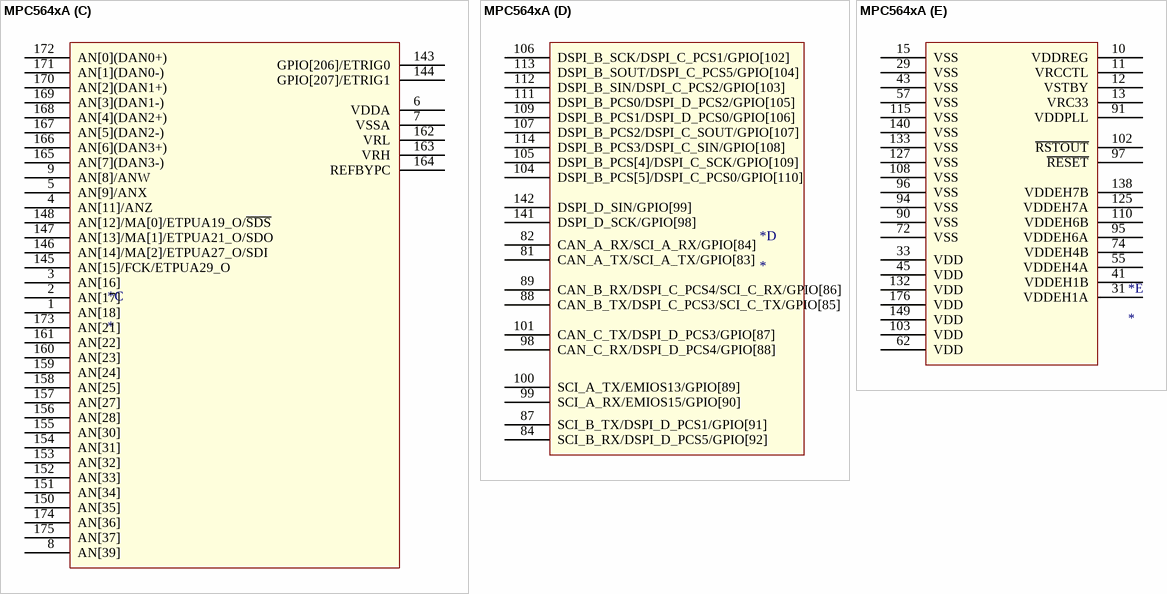
[diagram p7: symbol MPC564xA]

## MPC564xA
designator *
footprint MPC564xA (TSQFP, 176-Leads, Body 26.0x26.0mm (max), Pitch 0.50mm, IPC Medium Density)
part A pins: 21 ETPUA31/DSPI_C_PCS[4]/ETPUA13_O/GPIO[145], 22 ETPUA30/DSPI_C_PCS[3]/ETPUA11_O/GPIO[144], 23 ETPUA29/DSPI_C_PCS[2]/RCH5_C/GPIO[143], 24 ETPUA28/DSPI_C_PCS[1]/RCH5_B/GPIO[142], 25 ETPUA27/~{IRQ}[15]/DSPI_C_SOUT_LVDS+/SOUTB/GPIO[141], 26 ETPUA26/~{IRQ}[14]/DSPI_C_SOUT_LVDS-/GPIO[140], 27 ETPUA25/~{IRQ}[13]/DSPI_C_SCK_LVDS+/GPIO[139], 28 ETPUA24/~{IRQ}[12]/DSPI_C_SCK_LVDS-/GPIO[138], 30 ETPUA23/~{IRQ}[11]/ETPUA21_O/FR_A_TX_EN/GPIO[137], 32 ETPUA22/~{IRQ}[10]/ETPUA17_0/GPIO[136], 34 ETPUA21/~{IRQ}[9]/RCH0_C/FR_A_RX/GPIO[135], 35 ETPUA20/~{IRQ}[8]/RCH0_B/FR_A_TX/GPIO[134], 36 ETPUA19/DSPI_D_PCS[4]/RCH5_A/GPIO[133], 37 ETPUA18/DSPI_D_PCS[3]/RCH4_A/GPIO[132], 38 ETPUA17/DSPI_D_PCS[2]/RCH3_A/GPIO[131], 39 ETPUA16/DSPI_D_PCS[1]/RCH2_A/GPIO[130], 40 ETPUA15/DSPI_B_PCS[5]/RCH1_A/GPIO[129], 42 ETPUA14/DSPI_B_PCS[4]/ETPUA9_O/RCH0_A/GPIO[128], 46 ETPUA13/DSPI_B_PCS[3]/GPIO[127], 47 ETPUA12/DSPI_B_PCS[1]/RCH4_C/GPIO[126], 48 ETPUA11/ETPUA23_0/RCH4_B/GPIO[125], 49 ETPUA10/ETPUA22_O/RCH1_C/GPIO[124], 50 ETPUA9/ETPUA21_O/RCH1_B/GPIO[123], 51 ETPUA8/ETPUA20_O/DSPI_B_SOUT_LVDS+/GPIO[122], 52 ETPUA7/ETPUA19_O/DSPI_B_SOUT_LVDS-/ETPUA6_O/GPIO[121], 53 ETPUA6/ETPUA18_O/DSDPI_B_SCK_LVDS+/FR_B_RX/GPIO[120], 54 ETPUA5/ETPUA17_O/DSPI_B_SCK_LVDS-/FR_B_TX_EN/GPIO[119], 56 ETPUA4/ETPUA16_O/FR_B_TX/GPIO[118], 58 ETPUA3/ETPUA15_O/GPIO[117], 59 ETPUA2/ETPUA14_O/GPIO[116], 60 ETPUA1/ETPUA13_O/GPIO[115], 61 ETPUA0/ETPUA12_O/ETPUA19_O/GPIO[114], 63 EMIOS0/ETPUA0/ETPUA25_O/GPIO[179], 64 EMIOS1/ETPUA1_O/GPIO[180], 65 EMIOS2/ETPUA2_O/RCH2_B/GPIO[181], 66 EMIOS3/ETPUA3_O/GPIO[182], 67 EMIOS4/ETPUA4_O/RCH2_C/GPIO[183], 68 EMIOS6/ETPUA6_O/GPIO[185], 69 EMIOS7/ETPUA7_O/GPIO[186], 70 EMIOS8/ETPUA8_O/SCI_B_TX/GPIO[187], 71 EMIOS9/ETPUA9_O/SCI_B_RX/GPIO[188], 73 EMIOS10/DSPI_D_PCS[3]/RCH3_B/GPIO[189], 75 EMIOS11/DSPI_D_PCS4/RCH3_C/GPIO[190], 76 EMIOS12/DSPI_C_SOUT/ETPUA27_O/GPIO[191], 77 EMIOS13/DSPI_D_SOUT/GPIO[192], 78 EMIOS14/~{IRQ}[0]/ETPUA29_O/GPIO[193], 79 EMIOS15/~{IRQ}[1]/GPIO[194], 80 EMIOS23/GPIO[202], 122 GPIO[219]
part B pins: 14 MCKO, 17 MDO[0], 18 MDO[1], 19 MDO[2], 20 MDO[3], 83 PLLREF/~{IRQ}[4]/ETRIG[2]/GPIO[208], 85 BOOTCFG1/~{IRQ}[3]/ETRIG[3]/GPIO[212], 86 WKPCFG/NMI/DSPI_B_SOUT/GPIO[213], 92 EXTAL/EXTCLK, 93 XTAL, 116 ~{EVTI}, 117 ~{MSEO}[1], 118 ~{MSEO}[0], 120 ~{EVTO}, 121 JCOMP, 123 TDO, 124 MDO11/ETPUA29_O/GPIO[82], 126 MDO4/ETPUA2_O/GPIO[75], 128 TCK, 129 MDO5/ETPUA4_O/GPIO[76], 130 TDI, 131 TMS, 134 MDO10/ETPUA27_O/GPIO[81], 135 MDO6/ETPUA13_O/GPIO[77], 136 MDO7/ETPUA19_O/GPIO[78], 137 MDO8/ETPUA21_O/GPIO[79], 139 MDO9/ETPUA25_O/GPIO[80]
part C pins: 1 AN[18], 2 AN[17], 3 AN[16], 4 AN[11]/ANZ, 5 AN[9]/ANX, 6 VDDA, 7 VSSA, 8 AN[39], 9 AN[8]/ANW, 143 GPIO[206]/ETRIG0, 144 GPIO[207]/ETRIG1, 145 AN[15]/FCK/ETPUA29_O, 146 AN[14]/MA[2]/ETPUA27_O/SDI, 147 AN[13]/MA[1]/ETPUA21_O/SDO, 148 AN[12]/MA[0]/ETPUA19_O/~{SDS}, 150 AN[35], 151 AN[34], 152 AN[33], 153 AN[32], 154 AN[31], 155 AN[30], 156 AN[28], 157 AN[27], 158 AN[25], 159 AN[24], 160 AN[23], 161 AN[22], 162 VRL, 163 VRH, 164 REFBYPC, 165 AN[7](DAN3-), 166 AN[6](DAN3+), 167 AN[5](DAN2-), 168 AN[4](DAN2+), 169 AN[3](DAN1-), 170 AN[2](DAN1+), 171 AN[1](DAN0-), 172 AN[0](DAN0+), 173 AN[21], 174 AN[36], 175 AN[37]
part D pins: 81 CAN_A_TX/SCI_A_TX/GPIO[83], 82 CAN_A_RX/SCI_A_RX/GPIO[84], 84 SCI_B_RX/DSPI_D_PCS5/GPIO[92], 87 SCI_B_TX/DSPI_D_PCS1/GPIO[91], 88 CAN_B_TX/DSPI_C_PCS3/SCI_C_TX/GPIO[85], 89 CAN_B_RX/DSPI_C_PCS4/SCI_C_RX/GPIO[86], 98 CAN_C_RX/DSPI_D_PCS4/GPIO[88], 99 SCI_A_RX/EMIOS15/GPIO[90], 100 SCI_A_TX/EMIOS13/GPIO[89], 101 CAN_C_TX/DSPI_D_PCS3/GPIO[87], 104 DSPI_B_PCS[5]/DSPI_C_PCS0/GPIO[110], 105 DSPI_B_PCS[4]/DSPI_C_SCK/GPIO[109], 106 DSPI_B_SCK/DSPI_C_PCS1/GPIO[102], 107 DSPI_B_PCS2/DSPI_C_SOUT/GPIO[107], 109 DSPI_B_PCS1/DSPI_D_PCS0/GPIO[106], 111 DSPI_B_PCS0/DSPI_D_PCS2/GPIO[105], 112 DSPI_B_SIN/DSPI_C_PCS2/GPIO[103], 113 DSPI_B_SOUT/DSPI_C_PCS5/GPIO[104], 114 DSPI_B_PCS3/DSPI_C_SIN/GPIO[108], 141 DSPI_D_SCK/GPIO[98], 142 DSPI_D_SIN/GPIO[99]
part E pins: 10 VDDREG, 11 VRCCTL, 12 VSTBY, 13 VRC33, 15 VSS, 29 VSS, 31 VDDEH1A, 33 VDD, 41 VDDEH1B, 43 VSS, 45 VDD, 55 VDDEH4A, 57 VSS, 62 VDD, 72 VSS, 74 VDDEH4B, 90 VSS, 91 VDDPLL, 94 VSS, 95 VDDEH6A, 96 VSS, 97 ~{RESET}, 102 ~{RSTOUT}, 103 VDD, 108 VSS, 110 VDDEH6B, 115 VSS, 125 VDDEH7A, 127 VSS, 132 VDD, 133 VSS, 138 VDDEH7B, 140 VSS, 149 VDD, 176 VDD

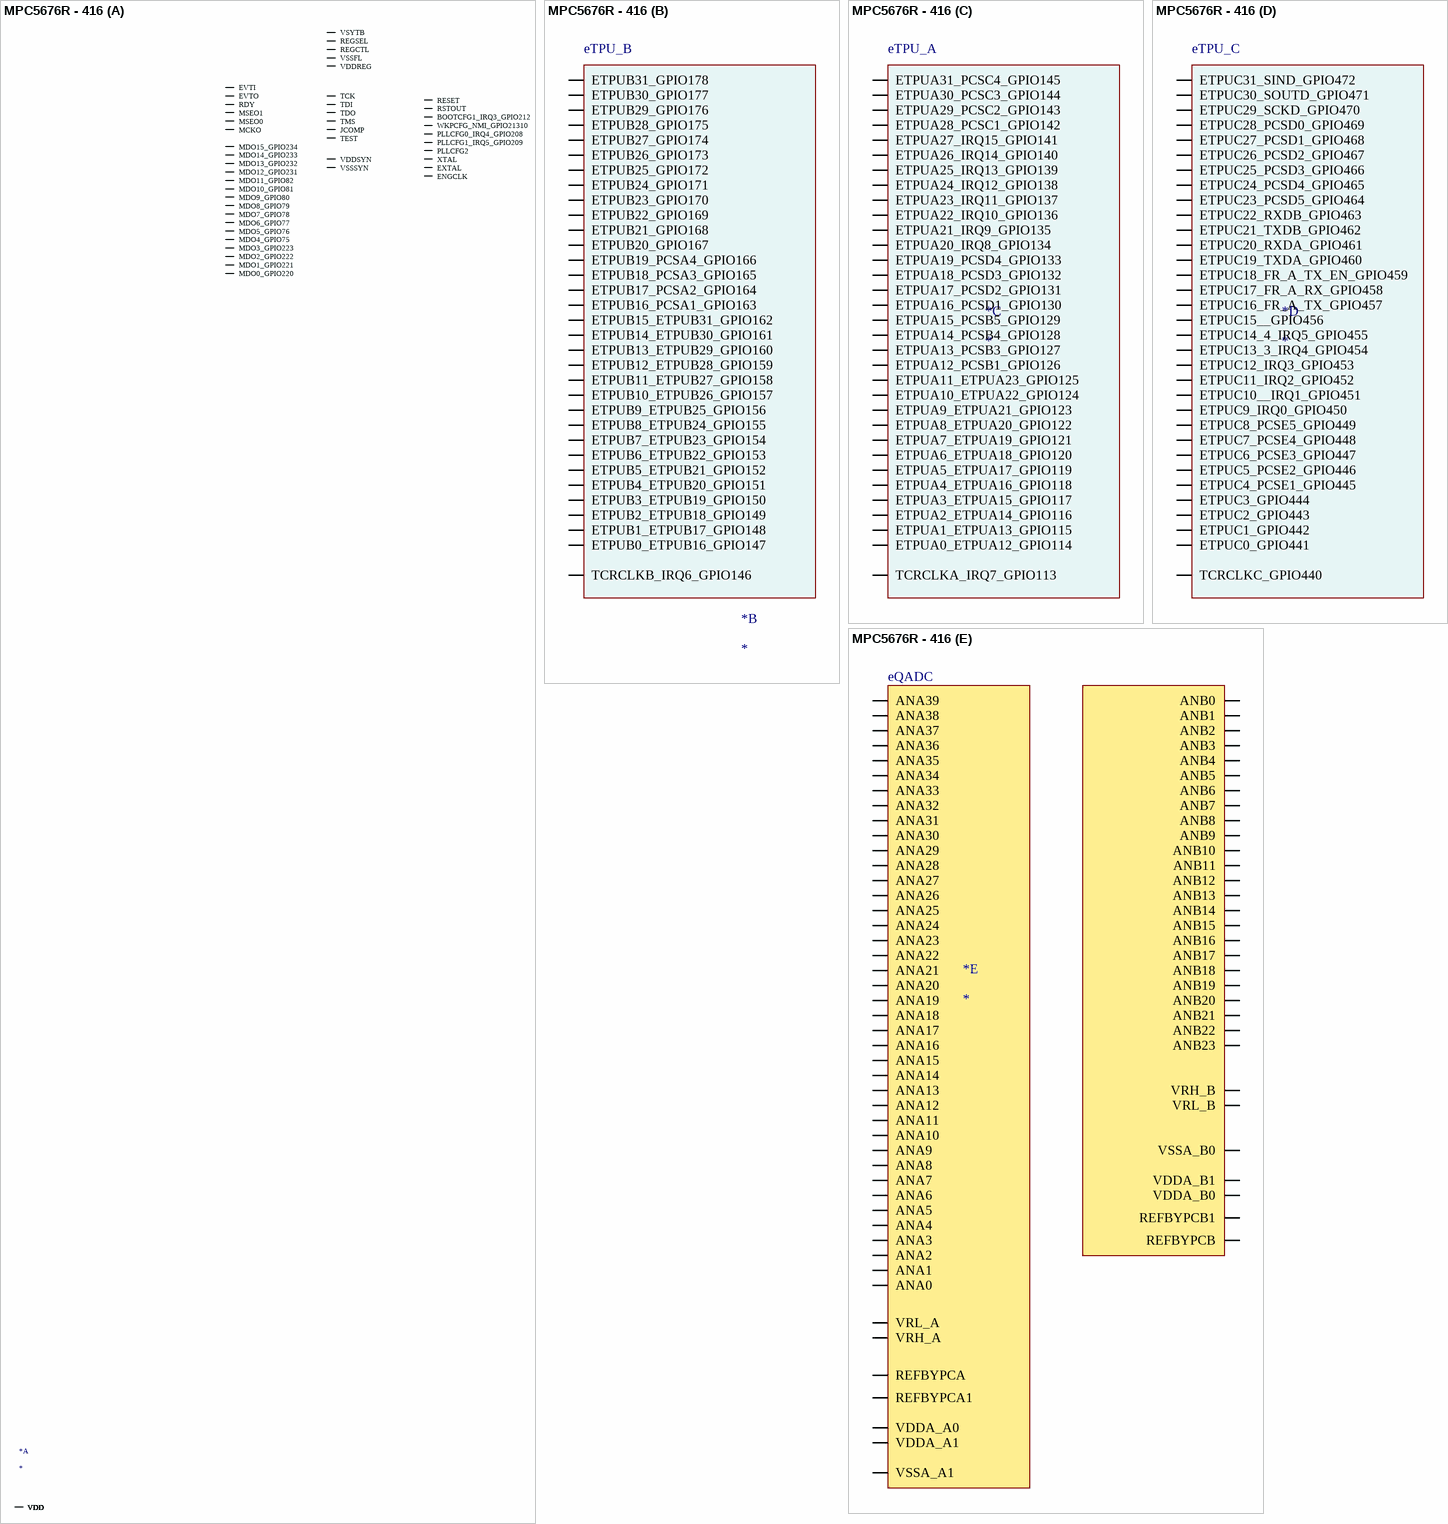
[diagram p8: symbol MPC5676R - 416]

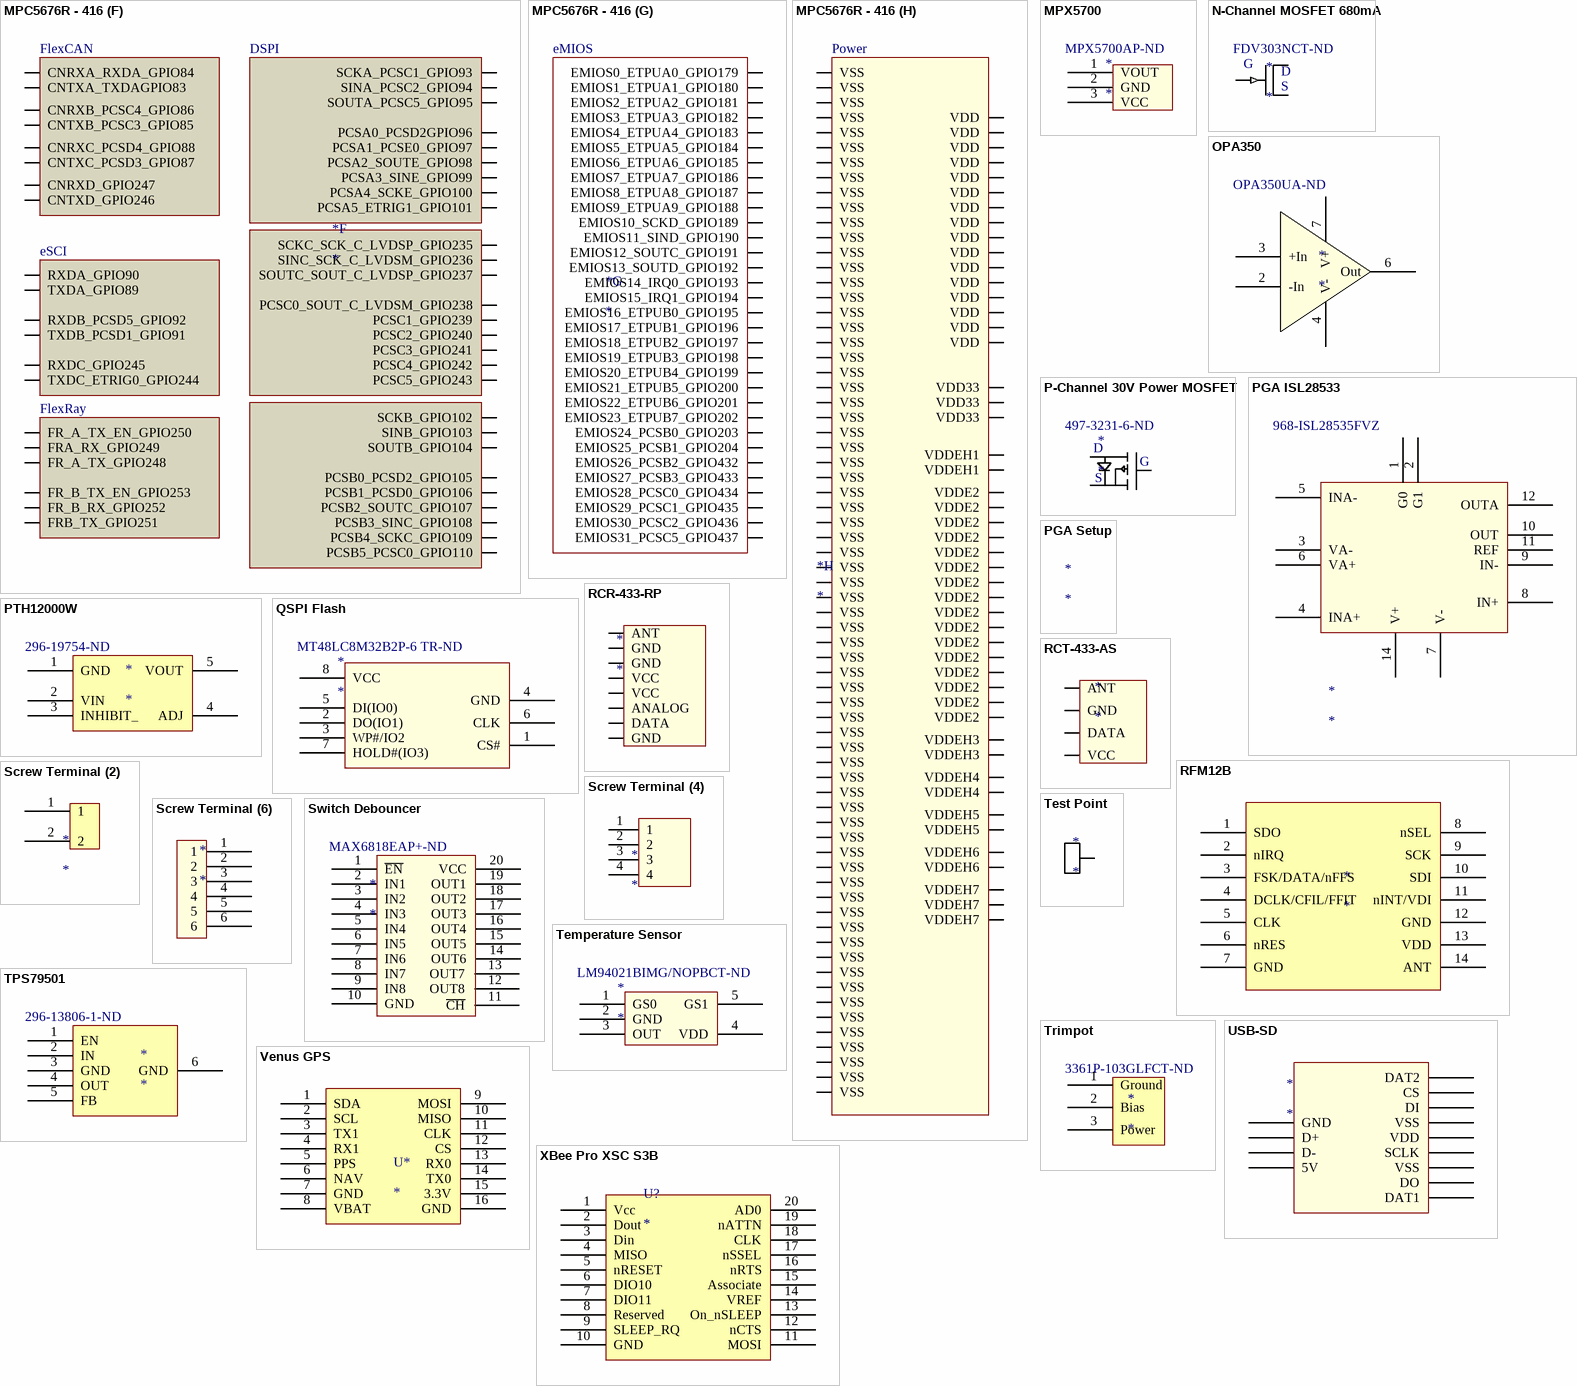
[diagram p9: symbols MPC5676R - 416 to XBee Pro XSC S3B]

## MPC5676R - 416
designator *
footprint BGA416C100P26X26_2700X2700X255 (BGA, 416-Leads, Body 27.00x27.00mmx2.55mm, Pitch 1.00mm)
part A pins: A2 VDD, A3 RSTOUT, AA1 MDO12_GPIO231, AA2 MDO13_GPIO232, AA3 MDO14_GPIO233, AA25 VDDREG, AA26 VSSSYN, AB1 TDO, AB2 TCK, AB3 TMS, AB4 VDD, AB23 VDD, AB25 VSSFL, AB26 EXTAL, AC2 TDI, AC3 VDD, AC12 VDD, AC24 VDD, AC26 XTAL, AD1 ENGCLK, AD25 VDD, AD26 VDDSYN, AE26 VDD, B3 VDD, B4 TEST, C4 VDD, D5 VDD, M4 VSYTB, N2 BOOTCFG1_IRQ3_GPIO212, N3 WKPCFG_NMI_GPIO21310, N4 VDD, P2 PLLCFG1_IRQ5_GPIO209, P3 PLLCFG2, R1 JCOMP, R2 RESET, R3 PLLCFG0_IRQ4_GPIO208, R4 RDY, T2 MCKO, T3 MSEO1, T4 EVTI, U1 EVTO, U2 MSEO0, U3 MDO0_GPIO220, U4 MDO1_GPIO221, V1 MDO2_GPIO222, V2 MDO3_GPIO223, V3 MDO4_GPIO75, V4 MDO5_GPIO76, W1 MDO6_GPIO77, W2 MDO7_GPIO78, W3 MDO8_GPIO79, W23 REGSEL, Y1 MDO9_GPIO80, Y2 MDO10_GPIO81, Y3 MDO11_GPIO82, Y4 MDO15_GPIO234, Y26 REGCTL
part B pins: AA24 ETPUB30_GPIO177, AB24 ETPUB31_GPIO178, M24 ETPUB15_ETPUB31_GPIO162, M25 ETPUB14_ETPUB30_GPIO161, N24 ETPUB11_ETPUB27_GPIO158, N25 ETPUB12_ETPUB28_GPIO159, N26 ETPUB13_ETPUB29_GPIO160, P23 ETPUB7_ETPUB23_GPIO154, P24 ETPUB8_ETPUB24_GPIO155, P25 ETPUB9_ETPUB25_GPIO156, P26 ETPUB10_ETPUB26_GPIO157, R23 ETPUB3_ETPUB19_GPIO150, R24 ETPUB4_ETPUB20_GPIO151, R25 ETPUB5_ETPUB21_GPIO152, R26 ETPUB6_ETPUB22_GPIO153, T23 TCRCLKB_IRQ6_GPIO146, T24 ETPUB0_ETPUB16_GPIO147, T25 ETPUB1_ETPUB17_GPIO148, T26 ETPUB2_ETPUB18_GPIO149, U23 ETPUB19_PCSA4_GPIO166, U24 ETPUB18_PCSA3_GPIO165, U25 ETPUB17_PCSA2_GPIO164, U26 ETPUB16_PCSA1_GPIO163, V23 ETPUB26_GPIO173, V24 ETPUB22_GPIO169, V25 ETPUB21_GPIO168, V26 ETPUB20_GPIO167, W24 ETPUB25_GPIO172, W25 ETPUB24_GPIO171, W26 ETPUB23_GPIO170, Y23 ETPUB29_GPIO176, Y24 ETPUB28_GPIO175, Y25 ETPUB27_GPIO174
part C pins: C1 ETPUA30_PCSC3_GPIO144, C2 ETPUA31_PCSC4_GPIO145, D1 ETPUA27_IRQ15_GPIO141, D2 ETPUA28_PCSC1_GPIO142, D3 ETPUA29_PCSC2_GPIO143, E1 ETPUA23_IRQ11_GPIO137, E2 ETPUA24_IRQ12_GPIO138, E3 ETPUA25_IRQ13_GPIO139, E4 ETPUA26_IRQ14_GPIO140, F1 ETPUA19_PCSD4_GPIO133, F2 ETPUA20_IRQ8_GPIO134, F3 ETPUA21_IRQ9_GPIO135, F4 ETPUA22_IRQ10_GPIO136, G1 ETPUA15_PCSB5_GPIO129, G2 ETPUA16_PCSD1_GPIO130, G3 ETPUA17_PCSD2_GPIO131, G4 ETPUA18_PCSD3_GPIO132, H1 ETPUA11_ETPUA23_GPIO125, H2 ETPUA12_PCSB1_GPIO126, H3 ETPUA14_PCSB4_GPIO128, H4 ETPUA13_PCSB3_GPIO127, J1 ETPUA7_ETPUA19_GPIO121, J2 ETPUA8_ETPUA20_GPIO122, J3 ETPUA9_ETPUA21_GPIO123, J4 ETPUA10_ETPUA22_GPIO124, K1 ETPUA3_ETPUA15_GPIO117, K2 ETPUA4_ETPUA16_GPIO118, K3 ETPUA5_ETPUA17_GPIO119, K4 ETPUA6_ETPUA18_GPIO120, L1 TCRCLKA_IRQ7_GPIO113, L2 ETPUA0_ETPUA12_GPIO114, L3 ETPUA1_ETPUA13_GPIO115, L4 ETPUA2_ETPUA14_GPIO116
part D pins: B26 TCRCLKC_GPIO440, C25 ETPUC0_GPIO441, C26 ETPUC1_GPIO442, D25 ETPUC2_GPIO443, D26 ETPUC3_GPIO444, E24 ETPUC4_PCSE1_GPIO445, E25 ETPUC5_PCSE2_GPIO446, E26 ETPUC6_PCSE3_GPIO447, F23 ETPUC7_PCSE4_GPIO448, F24 ETPUC8_PCSE5_GPIO449, F25 ETPUC9_IRQ0_GPIO450, F26 ETPUC10__IRQ1_GPIO451, G23 ETPUC11_IRQ2_GPIO452, G24 ETPUC12_IRQ3_GPIO453, G25 ETPUC13_3_IRQ4_GPIO454, G26 ETPUC14_4_IRQ5_GPIO455, H23 ETPUC15__GPIO456, H24 ETPUC16_FR_A_TX_GPIO457, H25 ETPUC17_FR_A_RX_GPIO458, H26 ETPUC18_FR_A_TX_EN_GPIO459, J23 ETPUC19_TXDA_GPIO460, J24 ETPUC20_RXDA_GPIO461, J25 ETPUC21_TXDB_GPIO462, J26 ETPUC22_RXDB_GPIO463, K23 ETPUC23_PCSD5_GPIO464, K24 ETPUC24_PCSD4_GPIO465, K25 ETPUC25_PCSD3_GPIO466, K26 ETPUC26_PCSD2_GPIO467, L23 ETPUC27_PCSD1_GPIO468, L24 ETPUC28_PCSD0_GPIO469, L25 ETPUC29_SCKD_GPIO470, L26 ETPUC30_SOUTD_GPIO471, M23 ETPUC31_SIND_GPIO472
part E pins: A4 ANA0, A5 ANA4, A6 ANA8, A7 ANA11, A8 ANA15, A9 VDDA_A0, A10 REFBYPCA1, A11 VRL_A, A12 VRH_A, A13 ANA28, A14 ANA32, A15 ANA36, A16 VDDA_B0, A17 REFBYPCB1, A18 VRL_B, A19 VRH_B, A20 ANB7, A21 ANB11, A22 ANB14, A23 ANB17, A24 ANB21, A25 ANB23, B5 ANA1, B6 ANA5, B7 ANA10, B8 ANA14, B9 VDDA_A1, B10 VSSA_A1, B11 REFBYPCA, B12 ANA24, B13 ANA27, B14 ANA29, B15 ANA33, B16 VDDA_B1, B17 VSSA_B0, B18 REFBYPCB, B19 ANB6, B20 ANB8, B21 ANB10, B22 ANB15, B23 ANB18, B24 ANB22, C5 ANA2, C6 ANA6, C7 ANA9, C8 ANA13, C9 ANA17, C10 ANA19, C11 ANA21, C12 ANA23, C13 ANA26, C14 ANA30, C15 ANA34, C16 ANA37, C17 ANA38, C18 ANB0, C19 ANB4, C20 ANB5, C21 ANB12, C22 ANB16, C23 ANB19, D6 ANA3, D7 ANA7, D8 ANA12, D9 ANA16, D10 ANA18, D11 ANA20, D12 ANA22, D13 ANA25, D14 ANA31, D15 ANA35, D16 ANA39, D17 ANB1, D18 ANB2, D19 ANB3, D20 ANB9, D21 ANB13, D22 ANB20
part F pins: AC6 PCSA1_PCSE0_GPIO97, AC7 PCSA2_SOUTE_GPIO98, AC8 PCSB4_SCKC_GPIO109, AC9 PCSB1_PCSD0_GPIO106, AC19 CNRXB_PCSC4_GPIO86, AC20 CNRXD_GPIO247, AC22 PCSC1_GPIO239, AD4 FR_A_TX_GPIO248, AD5 FRB_TX_GPIO251, AD6 PCSA5_ETRIG1_GPIO101, AD7 SOUTA_PCSC5_GPIO95, AD8 SCKA_PCSC1_GPIO93, AD9 PCSB0_PCSD2_GPIO105, AD10 PCSB3_SINC_GPIO108, AD19 CNTXB_PCSC3_GPIO85, AD20 CNTXD_GPIO246, AD21 SCKC_SCK_C_LVDSP_GPIO235, AD22 RXDC_GPIO245, AD23 PCSC3_GPIO241, AE3 FRA_RX_GPIO249, AE4 FR_B_RX_GPIO252, AE5 PCSA4_SCKE_GPIO100, AE6 PCSA0_PCSD2GPIO96, AE7 PCSA3_SINE_GPIO99, AE8 SCKB_GPIO102, AE9 SINB_GPIO103, AE19 CNRXA_RXDA_GPIO84, AE20 CNRXC_PCSD4_GPIO88, AE21 PCSC0_SOUT_C_LVDSM_GPIO238, AE22 SINC_SCK_C_LVDSM_GPIO236, AE23 PCSC2_GPIO240, AE24 PCSC5_GPIO243, AF3 FR_A_TX_EN_GPIO250, AF4 FR_B_TX_EN_GPIO253, AF6 PCSB5_PCSC0_GPIO110, AF7 SINA_PCSC2_GPIO94, AF8 PCSB2_SOUTC_GPIO107, AF9 SOUTB_GPIO104, AF19 CNTXA_TXDAGPIO83, AF20 CNTXC_PCSD3_GPIO87, AF21 SOUTC_SOUT_C_LVDSP_GPIO237, AF23 TXDC_ETRIG0_GPIO244, AF24 PCSC4_GPIO242, M2 TXDA_GPIO89, M3 RXDA_GPIO90, N1 RXDB_PCSD5_GPIO92, P1 TXDB_PCSD1_GPIO91
part G pins: AC13 EMIOS8_ETPUA8_GPIO187, AC14 EMIOS14_IRQ0_GPIO193, AC15 EMIOS18_ETPUB2_GPIO197, AC16 EMIOS22_ETPUB6_GPIO201, AC17 EMIOS27_PCSB3_GPIO433, AC18 EMIOS31_PCSC5_GPIO437, AD11 EMIOS2_ETPUA2_GPIO181, AD12 EMIOS5_ETPUA5_GPIO184, AD13 EMIOS9_ETPUA9_GPIO188, AD14 EMIOS15_IRQ1_GPIO194, AD15 EMIOS19_ETPUB3_GPIO198, AD16 EMIOS23_ETPUB7_GPIO202, AD17 EMIOS26_PCSB2_GPIO432, AD18 EMIOS30_PCSC2_GPIO436, AE10 EMIOS0_ETPUA0_GPIO179, AE11 EMIOS3_ETPUA3_GPIO182, AE12 EMIOS6_ETPUA6_GPIO185, AE13 EMIOS10_SCKD_GPIO189, AE14 EMIOS13_SOUTD_GPIO192, AE15 EMIOS17_ETPUB1_GPIO196, AE16 EMIOS21_ETPUB5_GPIO200, AE17 EMIOS25_PCSB1_GPIO204, AE18 EMIOS29_PCSC1_GPIO435, AF10 EMIOS1_ETPUA1_GPIO180, AF11 EMIOS4_ETPUA4_GPIO183, AF12 EMIOS7_ETPUA7_GPIO186, AF13 EMIOS11_SIND_GPIO190, AF14 EMIOS12_SOUTC_GPIO191, AF15 EMIOS16_ETPUB0_GPIO195, AF16 EMIOS20_ETPUB4_GPIO199, AF17 EMIOS24_PCSB0_GPIO203, AF18 EMIOS28_PCSC0_GPIO434
part H pins: A1 VSS, A2 VDD, A26 VSS, AA4 VDD33, AA23 VDD33, AB4 VDD, AB23 VDD, AC1 VDDE2, AC3 VDD, AC4 VSS, AC5 VDDE2, AC10 VDDEH3, AC11 VDDEH4, AC12 VDD, AC21 VDDEH5, AC23 VSS, AC24 VDD, AC25 VDDEH6, AD2 VDD, AD3 VSS, AD24 VSS, AD25 VDD, AD26 VDD, AE1 VDD, AE2 VSS, AE18 VDD, AE25 VSS, AE26 VDD, AF1 VSS, AF2 VDDE2, AF5 VDDEH3, AF22 VDDEH4, AF25 VDDEH5, AF26 VSS, B1 VDDEH1, B2 VSS, B3 VDD, B25 VSS, C3 VSS, C4 VDD, C24 VSS, D4 VSS, D5 VDD, D23 VSS, D24 VDDEH7, E23 VDDEH7, K10 VSS, K11 VSS, K12 VSS, K13 VSS, K14 VSS, K15 VSS, K16 VSS, K17 VSS, L10 VSS, L11 VSS, L12 VSS, L13 VSS, L14 VSS, L15 VSS, L16 VSS, L17 VSS, M1 VDD33, M10 VSS, M11 VSS, M12 VSS, M13 VSS, M14 VSS, M15 VSS, M16 VSS, M17 VSS, M26 VDDEH7, N4 VDD, N10 VDDE2, N11 VSS, N12 VSS, N13 VSS, N14 VSS, N15 VSS, N16 VSS, N17 VSS, N23 VDDEH6, P4 VDDEH1, P10 VDDE2, P11 VDDE2, P12 VSS, P13 VSS, P14 VSS, P15 VSS, P16 VSS, P17 VSS, R10 VDDE2, R11 VDDE2, R12 VSS, R13 VSS, R14 VSS, R15 VSS, R16 VSS, R17 VSS, T1 VDDE2, T10 VDDE2, T11 VDDE2, T12 VDDE2, T13 VSS, T14 VSS, T15 VSS, T16 VSS, T17 VSS, U10 VDDE2, U11 VDDE2, U12 VDDE2, U13 VSS, U14 VSS, U15 VSS, U16 VSS, U17 VSS, W4 VDDE2
part B text: eTPU_B
part C text: eTPU_A
part D text: eTPU_C
part E text: eQADC
part F text: FlexCAN; DSPI; eSCI; FlexRay
part G text: eMIOS
part H text: Power

## MPX5700
designator *  Supplier Part Number 1: MPX5700AP-ND
Supplier 1: Digi-Key
footprint MPX5700AP
pins: 1 VOUT, 2 GND, 3 VCC

## N-Channel MOSFET 680mA
designator *  Supplier Part Number 1: FDV303NCT-ND
Supplier 1: Digi-Key
footprint N-Channel MOSFET 680mA (FDV303N)
pins: 1 G, 2 D, 3 S

## OPA350
designator *  Supplier Part Number 1: OPA350UA-ND
High Speed A/D Buffer; Supplier 1: Digi-Key; ComponentLink1URL: http://www.ti.com/lit/ds/symlink/opa350.pdf; ComponentLink1Description: http://www.ti.com/lit/ds/symlink/opa350.pdf
footprint SOIC127P600X175-8N (SOIC, 8-Leads, Body 5.0x4.0mm (max), Pitch 1.27mm, IPC Medium Density)
pins: 2 -In, 3 +In, 4 V-, 6 Out, 7 V+

## P-Channel 30V Power MOSFET
designator *  Supplier Part Number 1: 497-3231-6-ND
Supplier 1: Digi-Key; ComponentLink1URL: http://www.st.com/web/en/resource/technical/document/datasheet/CD00001945.pdf; ComponentLink1Description: http://www.st.com/web/en/resource/technical/document/datasheet/CD00001945.pdf
footprint P-FET Power (STS5PF30L 5A)
pins: 1 G, 2 D, 3 S

## PGA ISL28533
designator *  Supplier Part Number 1: 968-ISL28535FVZ
Supplier 1: Mouser
footprint TSOP65P640X120-14N (TSOP, 14-Leads, Body 5.00x4.40mm, Pitch 0.65mm, IPC Medium Density)
pins: 1 G0, 2 G1, 3 VA-, 4 INA+, 5 INA-, 6 VA+, 7 V-, 8 IN+, 9 IN-, 10 OUT, 11 REF, 12 OUTA, 14 V+

## PGA Setup
designator *

## PTH12000W
designator *  Supplier Part Number 1: 296-19754-ND
Adj 6A 12Vin Power Module; ComponentLink1URL: http://www.ti.com/lit/ds/symlink/pth12000l.pdf; ComponentLink1Description: http://www.ti.com/lit/ds/symlink/pth12000l.pdf; Supplier 1: Digi-Key
footprint PowerModule
pins: 1 GND, 2 VIN, 3 INHIBIT_, 4 ADJ, 5 VOUT

## QSPI Flash
designator *  Supplier Part Number 1: MT48LC8M32B2P-6 TR-ND
Supplier 1: Digi-Key
footprint S25FL032P (SOIC, 8-Leads, Body 5.28x4.64mm, Pitch 1.27mm, IPC Medium Density)
pins: 1 CS#, 2 DO(IO1), 3 WP#/IO2, 4 GND, 5 DI(IO0), 6 CLK, 7 HOLD#(IO3), 8 VCC

## RCR-433-RP
designator *
pins: 1 ANT, 2 GND, 3 GND, 4 VCC, 5 VCC, 6 ANALOG, 7 DATA, 8 GND

## RCT-433-AS
designator *
footprint RCT-433
pins: 1 ANT, 2 GND, 3 DATA, 4 VCC

## RFM12B
designator *
footprint RFM12B
pins: 1 SDO, 2 nIRQ, 3 FSK/DATA/nFFS, 4 DCLK/CFIL/FFIT, 5 CLK, 6 nRES, 7 GND, 8 nSEL, 9 SCK, 10 SDI, 11 nINT/VDI, 12 GND, 13 VDD, 14 ANT

## Screw Terminal (2)
designator *
footprint Terminal Block 2
pins: 1, 2

## Screw Terminal (4)
designator *
footprint Terminal Block 4
pins: 1, 2, 3, 4

## Screw Terminal (6)
designator *
footprint Terminal Block 6
pins: 1, 2, 3, 4, 5, 6

## Switch Debouncer
designator *  Supplier Part Number 1: MAX6818EAP+-ND
Supplier 1: Digi-Key
footprint SOP65P780X199-20N (SOP, 20-Leads, Body 7.3x5.4mm (max), Pitch 0.65mm, IPC Medium Density)
pins: 1 ~{EN}, 2 IN1, 3 IN2, 4 IN3, 5 IN4, 6 IN5, 7 IN6, 8 IN7, 9 IN8, 10 GND, 11 ~{CH}, 12 OUT8, 13 OUT7, 14 OUT6, 15 OUT5, 16 OUT4, 17 OUT3, 18 OUT2, 19 OUT1, 20 VCC

## Temperature Sensor
designator *  Supplier Part Number 1: LM94021BIMG/NOPBCT-ND
Supplier 1: Digi-Key
footprint SOT65P210X110-5N (SOT23, 5-Leads, Body 2.2x2.4mm (max), Pitch 0.65mm, IPC Medium Density)
pins: 1 GS0, 2 GND, 3 OUT, 4 VDD, 5 GS1

## Test Point
designator *
Supplier 1: Digi-Key; Supplier Part Number 1: 5019KCT-ND
footprint Test Point
pins: 1